# Altium integrated library Altera APEX 20KE.IntLib: 235 symbols (part 15 of 49)
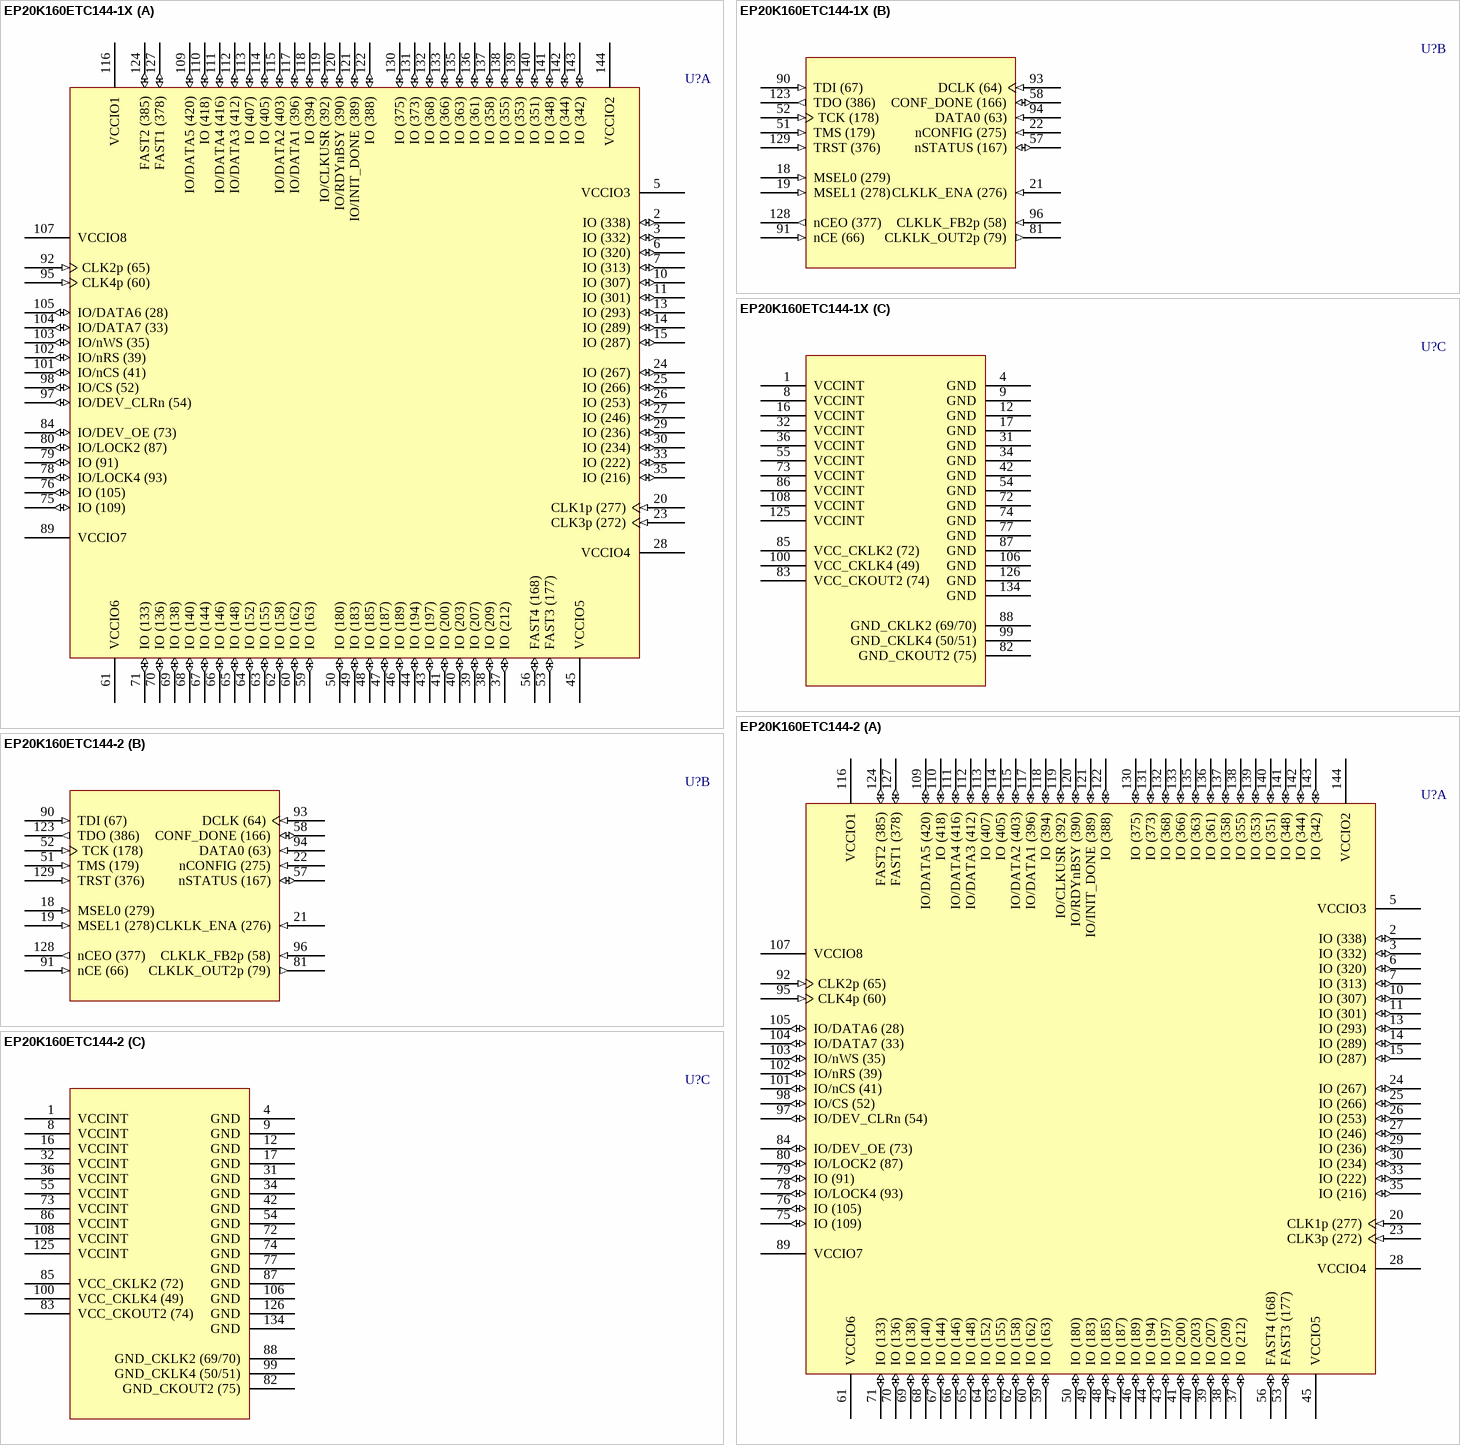
[diagram p413: symbols EP20K160ETC144-1X to EP20K160ETC144-2]

## EP20K160ETC144-1X
designator U?
APEX 20K160E PLD with PLLs and LVDS, 144-Pin TQFP, Commercial Grade, Speed Grade 1; Published: 17-Jul-2002; LatestRevisionDate: 13-Apr-2006; LatestRevisionNote: IPC-7351 Footprint Added.; DatasheetVersion: Mar-2004; PackageVersion: ver14.1, Oct-2005; PackageReference: TQFP144; Publisher: Altium Limited; PackageDescription: 144-Pin Plastic Thin Quad Flat Pack (TQFP144); Code_JEDEC: MS-026-BFB; ComponentLink1Description: Manufacturer Link; ComponentLink1URL: http://www.altera.com/products/devices/apex/apx-index.html; ComponentLink2Description: Datasheet; ComponentLink2URL: http://www.altera.com/literature/ds/apex.pdf
footprint TQFP144_N (Thin QFP, 144-Leads, Body 20x20mm, Pitch 0.5mm, IPC Medium Density)
footprint TQFP144_L (Thin QFP, 144-Leads, Body 20x20mm, Pitch 0.5mm, IPC High Density)
footprint TQFP144_M (Thin QFP, 144-Leads, Body 20x20mm, Pitch 0.5mm, IPC Low Density)
3D model EP20K160E-TQFP144 (144-Pin Plastic Thin Quad Flat Pack (TQFP144))
part A pins: 2 IO (338) (io), 3 IO (332) (io), 5 VCCIO3 (power), 6 IO (320) (io), 7 IO (313) (io), 10 IO (307) (io), 11 IO (301) (io), 13 IO (293) (io), 14 IO (289) (io), 15 IO (287) (io), 20 CLK1p (277) (in), 23 CLK3p (272) (in), 24 IO (267) (io), 25 IO (266) (io), 26 IO (253) (io), 27 IO (246) (io), 28 VCCIO4 (power), 29 IO (236) (io), 30 IO (234) (io), 33 IO (222) (io), 35 IO (216) (io), 37 IO (212) (io), 38 IO (209) (io), 39 IO (207) (io), 40 IO (203) (io), 41 IO (200) (io), 43 IO (197) (io), 44 IO (194) (io), 45 VCCIO5 (power), 46 IO (189) (io), 47 IO (187) (io), 48 IO (185) (io), 49 IO (183) (io), 50 IO (180) (io), 53 FAST3 (177) (io), 56 FAST4 (168) (io), 59 IO (163) (io), 60 IO (162) (io), 61 VCCIO6 (power), 62 IO (158) (io), 63 IO (155) (io), 64 IO (152) (io), 65 IO (148) (io), 66 IO (146) (io), 67 IO (144) (io), 68 IO (140) (io), 69 IO (138) (io), 70 IO (136) (io), 71 IO (133) (io), 75 IO (109) (io), 76 IO (105) (io), 78 IO/LOCK4 (93) (io), 79 IO (91) (io), 80 IO/LOCK2 (87) (io), 84 IO/DEV_OE (73) (io), 89 VCCIO7 (power), 92 CLK2p (65) (in), 95 CLK4p (60) (in), 97 IO/DEV_CLRn (54) (io), 98 IO/CS (52) (io), 101 IO/nCS (41) (io), 102 IO/nRS (39) (io), 103 IO/nWS (35) (io), 104 IO/DATA7 (33) (io), 105 IO/DATA6 (28) (io), 107 VCCIO8 (power), 109 IO/DATA5 (420) (io), 110 IO (418) (io), 111 IO/DATA4 (416) (io), 112 IO/DATA3 (412) (io), 113 IO (407) (io), 114 IO (405) (io), 115 IO/DATA2 (403) (io), 116 VCCIO1 (power), 117 IO/DATA1 (396) (io), 118 IO (394) (io), 119 IO/CLKUSR (392) (io), 120 IO/RDYnBSY (390) (io), 121 IO/INIT_DONE (389) (io), 122 IO (388) (io), 124 FAST2 (385) (io), 127 FAST1 (378) (io), 130 IO (375) (io), 131 IO (373) (io), 132 IO (368) (io), 133 IO (366) (io), 135 IO (363) (io), 136 IO (361) (io), 137 IO (358) (io), 138 IO (355) (io), 139 IO (353) (io), 140 IO (351) (io), 141 IO (348) (io), 142 IO (344) (io), 143 IO (342) (io), 144 VCCIO2 (power)
part B pins: 18 MSEL0 (279) (in), 19 MSEL1 (278) (in), 21 CLKLK_ENA (276) (in), 22 nCONFIG (275) (in), 51 TMS (179) (in), 52 TCK (178) (in), 57 nSTATUS (167) (io), 58 CONF_DONE (166) (io), 81 CLKLK_OUT2p (79) (out), 90 TDI (67) (in), 91 nCE (66) (in), 93 DCLK (64) (in), 94 DATA0 (63) (in), 96 CLKLK_FB2p (58) (in), 123 TDO (386) (out), 128 nCEO (377) (out), 129 TRST (376) (in)
part C pins: 1 VCCINT (power), 4 GND (power), 8 VCCINT (power), 9 GND (power), 12 GND (power), 16 VCCINT (power), 17 GND (power), 31 GND (power), 32 VCCINT (power), 34 GND (power), 36 VCCINT (power), 42 GND (power), 54 GND (power), 55 VCCINT (power), 72 GND (power), 73 VCCINT (power), 74 GND (power), 77 GND (power), 82 GND_CKOUT2 (75) (power), 83 VCC_CKOUT2 (74) (power), 85 VCC_CKLK2 (72) (power), 86 VCCINT (power), 87 GND (power), 88 GND_CKLK2 (69/70) (power), 99 GND_CKLK4 (50/51) (power), 100 VCC_CKLK4 (49) (power), 106 GND (power), 108 VCCINT (power), 125 VCCINT (power), 126 GND (power), 134 GND (power)

## EP20K160ETC144-2
designator U?
APEX 20K160E PLD, 144-Pin TQFP, Commercial Grade, Speed Grade 2; Published: 17-Jul-2002; LatestRevisionDate: 13-Apr-2006; LatestRevisionNote: IPC-7351 Footprint Added.; DatasheetVersion: Mar-2004; PackageVersion: ver14.1, Oct-2005; PackageReference: TQFP144; Publisher: Altium Limited; PackageDescription: 144-Pin Plastic Thin Quad Flat Pack (TQFP144); Code_JEDEC: MS-026-BFB; ComponentLink1Description: Manufacturer Link; ComponentLink1URL: http://www.altera.com/products/devices/apex/apx-index.html; ComponentLink2Description: Datasheet; ComponentLink2URL: http://www.altera.com/literature/ds/apex.pdf
footprint TQFP144_N (Thin QFP, 144-Leads, Body 20x20mm, Pitch 0.5mm, IPC Medium Density)
footprint TQFP144_L (Thin QFP, 144-Leads, Body 20x20mm, Pitch 0.5mm, IPC High Density)
footprint TQFP144_M (Thin QFP, 144-Leads, Body 20x20mm, Pitch 0.5mm, IPC Low Density)
3D model EP20K160E-TQFP144 (144-Pin Plastic Thin Quad Flat Pack (TQFP144))
part A pins: 2 IO (338) (io), 3 IO (332) (io), 5 VCCIO3 (power), 6 IO (320) (io), 7 IO (313) (io), 10 IO (307) (io), 11 IO (301) (io), 13 IO (293) (io), 14 IO (289) (io), 15 IO (287) (io), 20 CLK1p (277) (in), 23 CLK3p (272) (in), 24 IO (267) (io), 25 IO (266) (io), 26 IO (253) (io), 27 IO (246) (io), 28 VCCIO4 (power), 29 IO (236) (io), 30 IO (234) (io), 33 IO (222) (io), 35 IO (216) (io), 37 IO (212) (io), 38 IO (209) (io), 39 IO (207) (io), 40 IO (203) (io), 41 IO (200) (io), 43 IO (197) (io), 44 IO (194) (io), 45 VCCIO5 (power), 46 IO (189) (io), 47 IO (187) (io), 48 IO (185) (io), 49 IO (183) (io), 50 IO (180) (io), 53 FAST3 (177) (io), 56 FAST4 (168) (io), 59 IO (163) (io), 60 IO (162) (io), 61 VCCIO6 (power), 62 IO (158) (io), 63 IO (155) (io), 64 IO (152) (io), 65 IO (148) (io), 66 IO (146) (io), 67 IO (144) (io), 68 IO (140) (io), 69 IO (138) (io), 70 IO (136) (io), 71 IO (133) (io), 75 IO (109) (io), 76 IO (105) (io), 78 IO/LOCK4 (93) (io), 79 IO (91) (io), 80 IO/LOCK2 (87) (io), 84 IO/DEV_OE (73) (io), 89 VCCIO7 (power), 92 CLK2p (65) (in), 95 CLK4p (60) (in), 97 IO/DEV_CLRn (54) (io), 98 IO/CS (52) (io), 101 IO/nCS (41) (io), 102 IO/nRS (39) (io), 103 IO/nWS (35) (io), 104 IO/DATA7 (33) (io), 105 IO/DATA6 (28) (io), 107 VCCIO8 (power), 109 IO/DATA5 (420) (io), 110 IO (418) (io), 111 IO/DATA4 (416) (io), 112 IO/DATA3 (412) (io), 113 IO (407) (io), 114 IO (405) (io), 115 IO/DATA2 (403) (io), 116 VCCIO1 (power), 117 IO/DATA1 (396) (io), 118 IO (394) (io), 119 IO/CLKUSR (392) (io), 120 IO/RDYnBSY (390) (io), 121 IO/INIT_DONE (389) (io), 122 IO (388) (io), 124 FAST2 (385) (io), 127 FAST1 (378) (io), 130 IO (375) (io), 131 IO (373) (io), 132 IO (368) (io), 133 IO (366) (io), 135 IO (363) (io), 136 IO (361) (io), 137 IO (358) (io), 138 IO (355) (io), 139 IO (353) (io), 140 IO (351) (io), 141 IO (348) (io), 142 IO (344) (io), 143 IO (342) (io), 144 VCCIO2 (power)
part B pins: 18 MSEL0 (279) (in), 19 MSEL1 (278) (in), 21 CLKLK_ENA (276) (in), 22 nCONFIG (275) (in), 51 TMS (179) (in), 52 TCK (178) (in), 57 nSTATUS (167) (io), 58 CONF_DONE (166) (io), 81 CLKLK_OUT2p (79) (out), 90 TDI (67) (in), 91 nCE (66) (in), 93 DCLK (64) (in), 94 DATA0 (63) (in), 96 CLKLK_FB2p (58) (in), 123 TDO (386) (out), 128 nCEO (377) (out), 129 TRST (376) (in)
part C pins: 1 VCCINT (power), 4 GND (power), 8 VCCINT (power), 9 GND (power), 12 GND (power), 16 VCCINT (power), 17 GND (power), 31 GND (power), 32 VCCINT (power), 34 GND (power), 36 VCCINT (power), 42 GND (power), 54 GND (power), 55 VCCINT (power), 72 GND (power), 73 VCCINT (power), 74 GND (power), 77 GND (power), 82 GND_CKOUT2 (75) (power), 83 VCC_CKOUT2 (74) (power), 85 VCC_CKLK2 (72) (power), 86 VCCINT (power), 87 GND (power), 88 GND_CKLK2 (69/70) (power), 99 GND_CKLK4 (50/51) (power), 100 VCC_CKLK4 (49) (power), 106 GND (power), 108 VCCINT (power), 125 VCCINT (power), 126 GND (power), 134 GND (power)

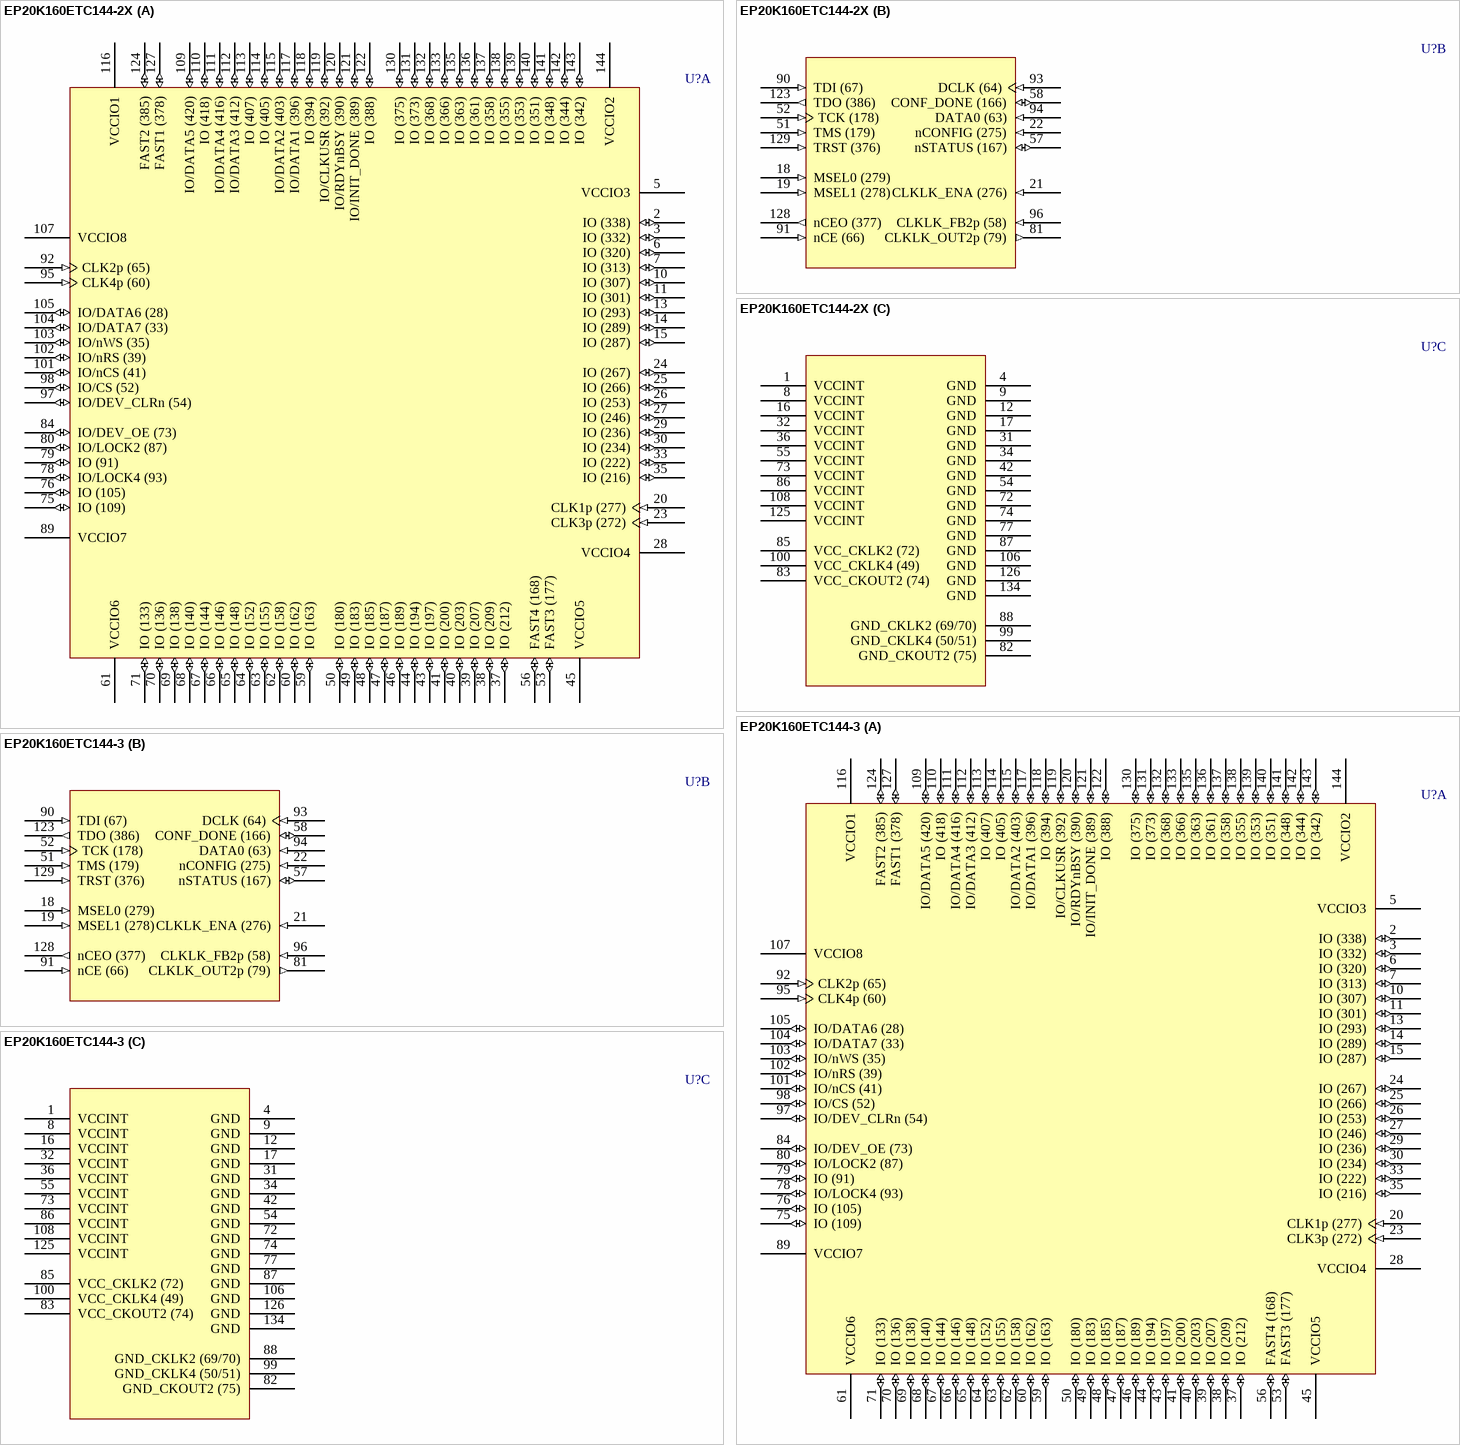
[diagram p161: symbols EP20K160ETC144-2X to EP20K160ETC144-3]

## EP20K160ETC144-2X
designator U?
APEX 20K160E PLD with PLLs and LVDS, 144-Pin TQFP, Commercial Grade, Speed Grade 2; Published: 17-Jul-2002; LatestRevisionDate: 13-Apr-2006; LatestRevisionNote: IPC-7351 Footprint Added.; DatasheetVersion: Mar-2004; PackageVersion: ver14.1, Oct-2005; PackageReference: TQFP144; Publisher: Altium Limited; PackageDescription: 144-Pin Plastic Thin Quad Flat Pack (TQFP144); Code_JEDEC: MS-026-BFB; ComponentLink1Description: Manufacturer Link; ComponentLink1URL: http://www.altera.com/products/devices/apex/apx-index.html; ComponentLink2Description: Datasheet; ComponentLink2URL: http://www.altera.com/literature/ds/apex.pdf
footprint TQFP144_N (Thin QFP, 144-Leads, Body 20x20mm, Pitch 0.5mm, IPC Medium Density)
footprint TQFP144_L (Thin QFP, 144-Leads, Body 20x20mm, Pitch 0.5mm, IPC High Density)
footprint TQFP144_M (Thin QFP, 144-Leads, Body 20x20mm, Pitch 0.5mm, IPC Low Density)
3D model EP20K160E-TQFP144 (144-Pin Plastic Thin Quad Flat Pack (TQFP144))
part A pins: 2 IO (338) (io), 3 IO (332) (io), 5 VCCIO3 (power), 6 IO (320) (io), 7 IO (313) (io), 10 IO (307) (io), 11 IO (301) (io), 13 IO (293) (io), 14 IO (289) (io), 15 IO (287) (io), 20 CLK1p (277) (in), 23 CLK3p (272) (in), 24 IO (267) (io), 25 IO (266) (io), 26 IO (253) (io), 27 IO (246) (io), 28 VCCIO4 (power), 29 IO (236) (io), 30 IO (234) (io), 33 IO (222) (io), 35 IO (216) (io), 37 IO (212) (io), 38 IO (209) (io), 39 IO (207) (io), 40 IO (203) (io), 41 IO (200) (io), 43 IO (197) (io), 44 IO (194) (io), 45 VCCIO5 (power), 46 IO (189) (io), 47 IO (187) (io), 48 IO (185) (io), 49 IO (183) (io), 50 IO (180) (io), 53 FAST3 (177) (io), 56 FAST4 (168) (io), 59 IO (163) (io), 60 IO (162) (io), 61 VCCIO6 (power), 62 IO (158) (io), 63 IO (155) (io), 64 IO (152) (io), 65 IO (148) (io), 66 IO (146) (io), 67 IO (144) (io), 68 IO (140) (io), 69 IO (138) (io), 70 IO (136) (io), 71 IO (133) (io), 75 IO (109) (io), 76 IO (105) (io), 78 IO/LOCK4 (93) (io), 79 IO (91) (io), 80 IO/LOCK2 (87) (io), 84 IO/DEV_OE (73) (io), 89 VCCIO7 (power), 92 CLK2p (65) (in), 95 CLK4p (60) (in), 97 IO/DEV_CLRn (54) (io), 98 IO/CS (52) (io), 101 IO/nCS (41) (io), 102 IO/nRS (39) (io), 103 IO/nWS (35) (io), 104 IO/DATA7 (33) (io), 105 IO/DATA6 (28) (io), 107 VCCIO8 (power), 109 IO/DATA5 (420) (io), 110 IO (418) (io), 111 IO/DATA4 (416) (io), 112 IO/DATA3 (412) (io), 113 IO (407) (io), 114 IO (405) (io), 115 IO/DATA2 (403) (io), 116 VCCIO1 (power), 117 IO/DATA1 (396) (io), 118 IO (394) (io), 119 IO/CLKUSR (392) (io), 120 IO/RDYnBSY (390) (io), 121 IO/INIT_DONE (389) (io), 122 IO (388) (io), 124 FAST2 (385) (io), 127 FAST1 (378) (io), 130 IO (375) (io), 131 IO (373) (io), 132 IO (368) (io), 133 IO (366) (io), 135 IO (363) (io), 136 IO (361) (io), 137 IO (358) (io), 138 IO (355) (io), 139 IO (353) (io), 140 IO (351) (io), 141 IO (348) (io), 142 IO (344) (io), 143 IO (342) (io), 144 VCCIO2 (power)
part B pins: 18 MSEL0 (279) (in), 19 MSEL1 (278) (in), 21 CLKLK_ENA (276) (in), 22 nCONFIG (275) (in), 51 TMS (179) (in), 52 TCK (178) (in), 57 nSTATUS (167) (io), 58 CONF_DONE (166) (io), 81 CLKLK_OUT2p (79) (out), 90 TDI (67) (in), 91 nCE (66) (in), 93 DCLK (64) (in), 94 DATA0 (63) (in), 96 CLKLK_FB2p (58) (in), 123 TDO (386) (out), 128 nCEO (377) (out), 129 TRST (376) (in)
part C pins: 1 VCCINT (power), 4 GND (power), 8 VCCINT (power), 9 GND (power), 12 GND (power), 16 VCCINT (power), 17 GND (power), 31 GND (power), 32 VCCINT (power), 34 GND (power), 36 VCCINT (power), 42 GND (power), 54 GND (power), 55 VCCINT (power), 72 GND (power), 73 VCCINT (power), 74 GND (power), 77 GND (power), 82 GND_CKOUT2 (75) (power), 83 VCC_CKOUT2 (74) (power), 85 VCC_CKLK2 (72) (power), 86 VCCINT (power), 87 GND (power), 88 GND_CKLK2 (69/70) (power), 99 GND_CKLK4 (50/51) (power), 100 VCC_CKLK4 (49) (power), 106 GND (power), 108 VCCINT (power), 125 VCCINT (power), 126 GND (power), 134 GND (power)

## EP20K160ETC144-3
designator U?
APEX 20K160E PLD, 144-Pin TQFP, Commercial Grade, Speed Grade 3; Published: 17-Jul-2002; LatestRevisionDate: 13-Apr-2006; LatestRevisionNote: IPC-7351 Footprint Added.; DatasheetVersion: Mar-2004; PackageVersion: ver14.1, Oct-2005; PackageReference: TQFP144; Publisher: Altium Limited; PackageDescription: 144-Pin Plastic Thin Quad Flat Pack (TQFP144); Code_JEDEC: MS-026-BFB; ComponentLink1Description: Manufacturer Link; ComponentLink1URL: http://www.altera.com/products/devices/apex/apx-index.html; ComponentLink2Description: Datasheet; ComponentLink2URL: http://www.altera.com/literature/ds/apex.pdf
footprint TQFP144_N (Thin QFP, 144-Leads, Body 20x20mm, Pitch 0.5mm, IPC Medium Density)
footprint TQFP144_L (Thin QFP, 144-Leads, Body 20x20mm, Pitch 0.5mm, IPC High Density)
footprint TQFP144_M (Thin QFP, 144-Leads, Body 20x20mm, Pitch 0.5mm, IPC Low Density)
3D model EP20K160E-TQFP144 (144-Pin Plastic Thin Quad Flat Pack (TQFP144))
part A pins: 2 IO (338) (io), 3 IO (332) (io), 5 VCCIO3 (power), 6 IO (320) (io), 7 IO (313) (io), 10 IO (307) (io), 11 IO (301) (io), 13 IO (293) (io), 14 IO (289) (io), 15 IO (287) (io), 20 CLK1p (277) (in), 23 CLK3p (272) (in), 24 IO (267) (io), 25 IO (266) (io), 26 IO (253) (io), 27 IO (246) (io), 28 VCCIO4 (power), 29 IO (236) (io), 30 IO (234) (io), 33 IO (222) (io), 35 IO (216) (io), 37 IO (212) (io), 38 IO (209) (io), 39 IO (207) (io), 40 IO (203) (io), 41 IO (200) (io), 43 IO (197) (io), 44 IO (194) (io), 45 VCCIO5 (power), 46 IO (189) (io), 47 IO (187) (io), 48 IO (185) (io), 49 IO (183) (io), 50 IO (180) (io), 53 FAST3 (177) (io), 56 FAST4 (168) (io), 59 IO (163) (io), 60 IO (162) (io), 61 VCCIO6 (power), 62 IO (158) (io), 63 IO (155) (io), 64 IO (152) (io), 65 IO (148) (io), 66 IO (146) (io), 67 IO (144) (io), 68 IO (140) (io), 69 IO (138) (io), 70 IO (136) (io), 71 IO (133) (io), 75 IO (109) (io), 76 IO (105) (io), 78 IO/LOCK4 (93) (io), 79 IO (91) (io), 80 IO/LOCK2 (87) (io), 84 IO/DEV_OE (73) (io), 89 VCCIO7 (power), 92 CLK2p (65) (in), 95 CLK4p (60) (in), 97 IO/DEV_CLRn (54) (io), 98 IO/CS (52) (io), 101 IO/nCS (41) (io), 102 IO/nRS (39) (io), 103 IO/nWS (35) (io), 104 IO/DATA7 (33) (io), 105 IO/DATA6 (28) (io), 107 VCCIO8 (power), 109 IO/DATA5 (420) (io), 110 IO (418) (io), 111 IO/DATA4 (416) (io), 112 IO/DATA3 (412) (io), 113 IO (407) (io), 114 IO (405) (io), 115 IO/DATA2 (403) (io), 116 VCCIO1 (power), 117 IO/DATA1 (396) (io), 118 IO (394) (io), 119 IO/CLKUSR (392) (io), 120 IO/RDYnBSY (390) (io), 121 IO/INIT_DONE (389) (io), 122 IO (388) (io), 124 FAST2 (385) (io), 127 FAST1 (378) (io), 130 IO (375) (io), 131 IO (373) (io), 132 IO (368) (io), 133 IO (366) (io), 135 IO (363) (io), 136 IO (361) (io), 137 IO (358) (io), 138 IO (355) (io), 139 IO (353) (io), 140 IO (351) (io), 141 IO (348) (io), 142 IO (344) (io), 143 IO (342) (io), 144 VCCIO2 (power)
part B pins: 18 MSEL0 (279) (in), 19 MSEL1 (278) (in), 21 CLKLK_ENA (276) (in), 22 nCONFIG (275) (in), 51 TMS (179) (in), 52 TCK (178) (in), 57 nSTATUS (167) (io), 58 CONF_DONE (166) (io), 81 CLKLK_OUT2p (79) (out), 90 TDI (67) (in), 91 nCE (66) (in), 93 DCLK (64) (in), 94 DATA0 (63) (in), 96 CLKLK_FB2p (58) (in), 123 TDO (386) (out), 128 nCEO (377) (out), 129 TRST (376) (in)
part C pins: 1 VCCINT (power), 4 GND (power), 8 VCCINT (power), 9 GND (power), 12 GND (power), 16 VCCINT (power), 17 GND (power), 31 GND (power), 32 VCCINT (power), 34 GND (power), 36 VCCINT (power), 42 GND (power), 54 GND (power), 55 VCCINT (power), 72 GND (power), 73 VCCINT (power), 74 GND (power), 77 GND (power), 82 GND_CKOUT2 (75) (power), 83 VCC_CKOUT2 (74) (power), 85 VCC_CKLK2 (72) (power), 86 VCCINT (power), 87 GND (power), 88 GND_CKLK2 (69/70) (power), 99 GND_CKLK4 (50/51) (power), 100 VCC_CKLK4 (49) (power), 106 GND (power), 108 VCCINT (power), 125 VCCINT (power), 126 GND (power), 134 GND (power)

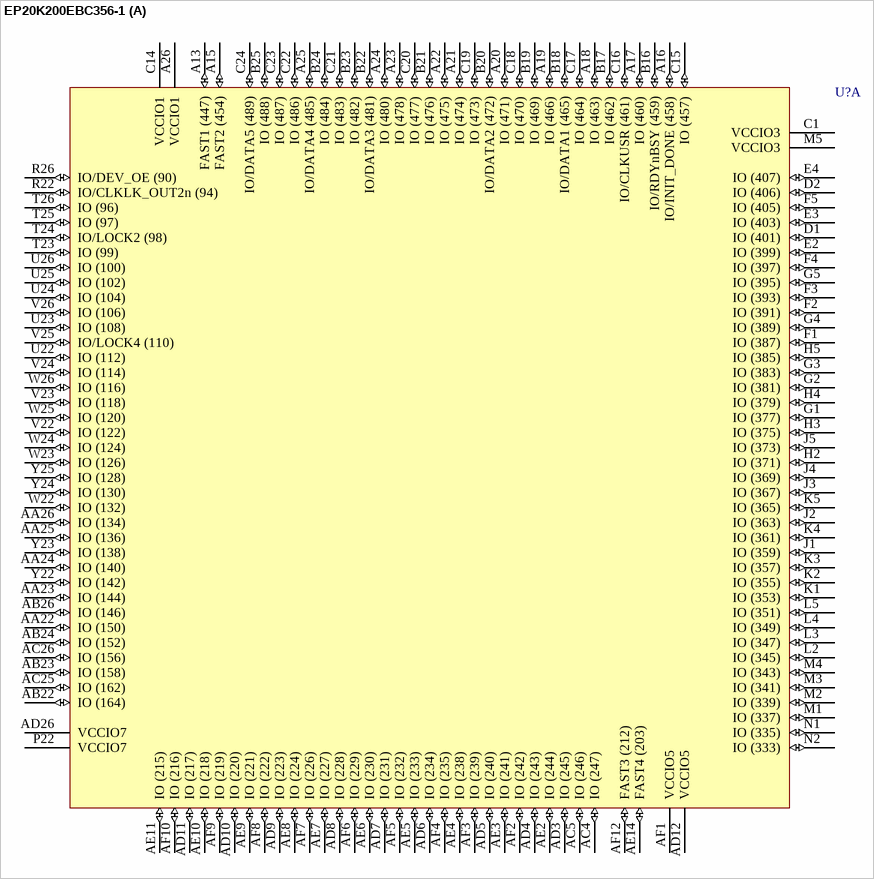
[diagram p162: symbol EP20K200EBC356-1]

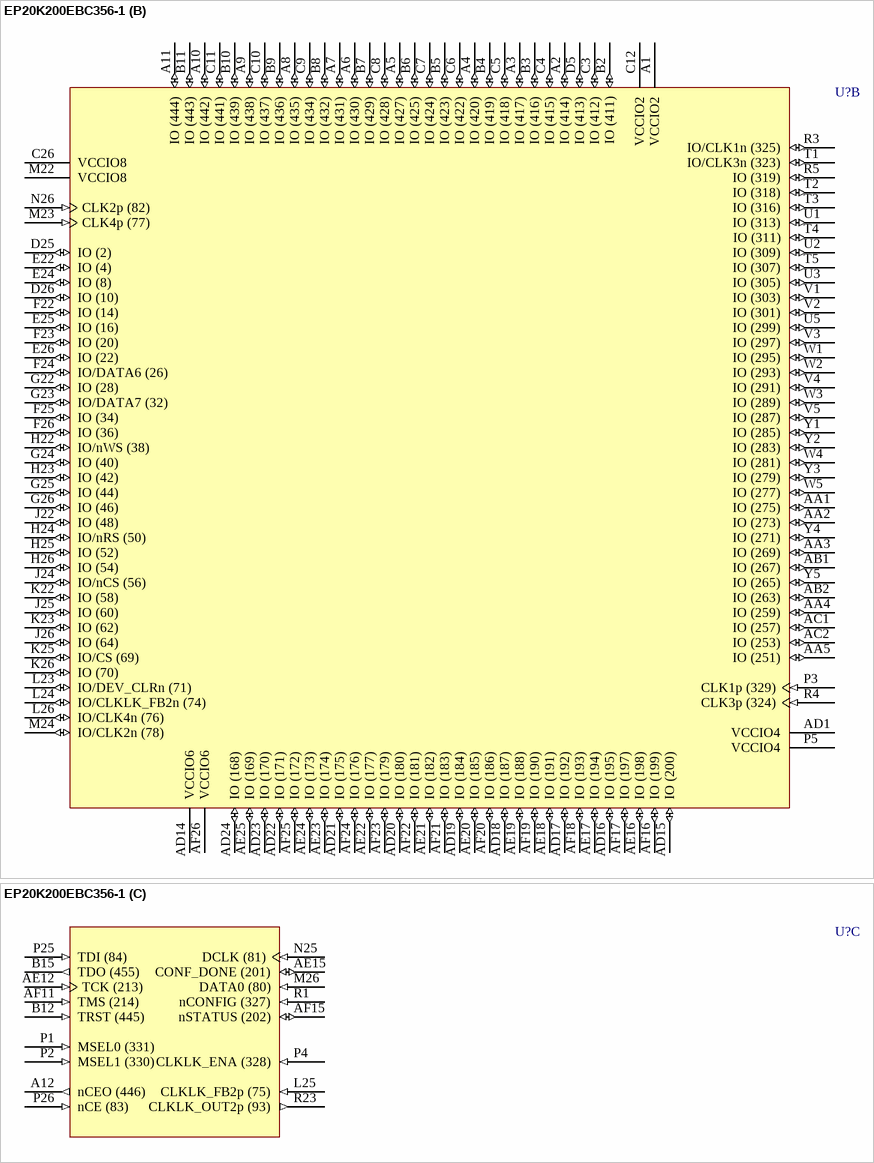
[diagram p163: symbol EP20K200EBC356-1]

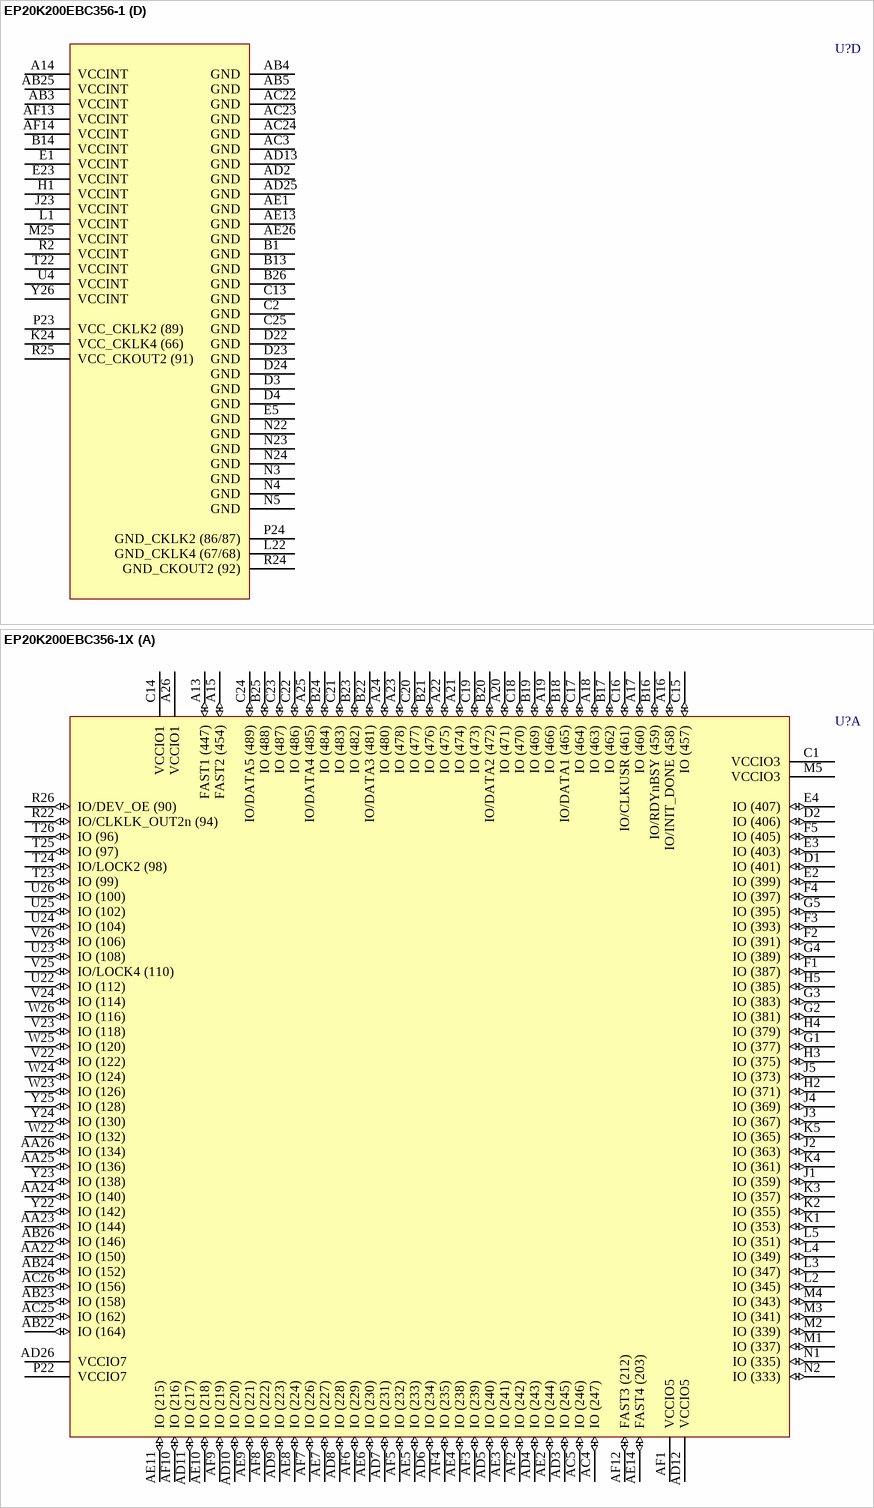
[diagram p164: symbols EP20K200EBC356-1 to EP20K200EBC356-1X]

## EP20K200EBC356-1
designator U?
APEX 20K200E PLD, 356-Pin BGA, Commercial Grade, Speed Grade 1; Published: 17-Jul-2002; LatestRevisionDate: 13-Apr-2006; LatestRevisionNote: IPC-7351 Footprint Added.; DatasheetVersion: Mar-2004; PackageVersion: ver14.1, Oct-2005; PackageReference: BGA356; Publisher: Altium Limited; PackageDescription: 356-Ball Ball Grid Array (BGA356); Code_JEDEC: MO-192-BAR-2; ComponentLink1Description: Manufacturer Link; ComponentLink1URL: http://www.altera.com/products/devices/apex/apx-index.html; ComponentLink2Description: Datasheet; ComponentLink2URL: http://www.altera.com/literature/ds/apex.pdf
footprint BGA356 (BGA, 356-Leads, Body 35x35mm, Pitch 1.27mm)
3D model EP20K200E-BGA356 (356-Ball Ball Grid Array (BGA356))
part A pins: A13 FAST1 (447) (io), A15 FAST2 (454) (io), A16 IO/INIT_DONE (458) (io), A17 IO (460) (io), A18 IO (463) (io), A19 IO (466) (io), A20 IO (471) (io), A21 IO (474) (io), A22 IO (475) (io), A23 IO (478) (io), A24 IO (480) (io), A25 IO/DATA4 (485) (io), A26 VCCIO1 (power), AA22 IO (150) (io), AA23 IO (144) (io), AA24 IO (140) (io), AA25 IO (136) (io), AA26 IO (134) (io), AB22 IO (164) (io), AB23 IO (158) (io), AB24 IO (152) (io), AB26 IO (146) (io), AC4 IO (247) (io), AC5 IO (246) (io), AC25 IO (162) (io), AC26 IO (156) (io), AD3 IO (245) (io), AD4 IO (243) (io), AD5 IO (240) (io), AD6 IO (234) (io), AD7 IO (231) (io), AD8 IO (228) (io), AD9 IO (223) (io), AD10 IO (220) (io), AD11 IO (217) (io), AD12 VCCIO5 (power), AD26 VCCIO7 (power), AE2 IO (244) (io), AE3 IO (241) (io), AE4 IO (238) (io), AE5 IO (233) (io), AE6 IO (230) (io), AE7 IO (227) (io), AE8 IO (224) (io), AE9 IO (221) (io), AE10 IO (218) (io), AE11 IO (215) (io), AE14 FAST4 (203) (io), AF1 VCCIO5 (power), AF2 IO (242) (io), AF3 IO (239) (io), AF4 IO (235) (io), AF5 IO (232) (io), AF6 IO (229) (io), AF7 IO (226) (io), AF8 IO (222) (io), AF9 IO (219) (io), AF10 IO (216) (io), AF12 FAST3 (212) (io), B16 IO/RDYnBSY (459) (io), B17 IO (462) (io), B18 IO/DATA1 (465) (io), B19 IO (469) (io), B20 IO/DATA2 (472) (io), B21 IO (476) (io), B22 IO/DATA3 (481) (io), B23 IO (482) (io), B24 IO (484) (io), B25 IO (488) (io), C1 VCCIO3 (power), C14 VCCIO1 (power), C15 IO (457) (io), C16 IO/CLKUSR (461) (io), C17 IO (464) (io), C18 IO (470) (io), C19 IO (473) (io), C20 IO (477) (io), C21 IO (483) (io), C22 IO (486) (io), C23 IO (487) (io), C24 IO/DATA5 (489) (io), D1 IO (401) (io), D2 IO (406) (io), E2 IO (399) (io), E3 IO (403) (io), E4 IO (407) (io), F1 IO (387) (io), F2 IO (391) (io), F3 IO (393) (io), F4 IO (397) (io), F5 IO (405) (io), G1 IO (377) (io), G2 IO (381) (io), G3 IO (383) (io), G4 IO (389) (io), G5 IO (395) (io), H2 IO (371) (io), H3 IO (375) (io), H4 IO (379) (io), H5 IO (385) (io), J1 IO (359) (io), J2 IO (363) (io), J3 IO (367) (io), J4 IO (369) (io), J5 IO (373) (io), K1 IO (353) (io), K2 IO (355) (io), K3 IO (357) (io), K4 IO (361) (io), K5 IO (365) (io), L2 IO (345) (io), L3 IO (347) (io), L4 IO (349) (io), L5 IO (351) (io), M1 IO (337) (io), M2 IO (339) (io), M3 IO (341) (io), M4 IO (343) (io), M5 VCCIO3 (power), N1 IO (335) (io), N2 IO (333) (io), P22 VCCIO7 (power), R22 IO/CLKLK_OUT2n (94) (io), R26 IO/DEV_OE (90) (io), T23 IO (99) (io), T24 IO/LOCK2 (98) (io), T25 IO (97) (io), T26 IO (96) (io), U22 IO (112) (io), U23 IO (108) (io), U24 IO (104) (io), U25 IO (102) (io), U26 IO (100) (io), V22 IO (122) (io), V23 IO (118) (io), V24 IO (114) (io), V25 IO/LOCK4 (110) (io), V26 IO (106) (io), W22 IO (132) (io), W23 IO (126) (io), W24 IO (124) (io), W25 IO (120) (io), W26 IO (116) (io), Y22 IO (142) (io), Y23 IO (138) (io), Y24 IO (130) (io), Y25 IO (128) (io)
part B pins: A1 VCCIO2 (power), A2 IO (414) (io), A3 IO (417) (io), A4 IO (420) (io), A5 IO (427) (io), A6 IO (430) (io), A7 IO (431) (io), A8 IO (435) (io), A9 IO (438) (io), A10 IO (442) (io), A11 IO (444) (io), AA1 IO (275) (io), AA2 IO (273) (io), AA3 IO (269) (io), AA4 IO (259) (io), AA5 IO (251) (io), AB1 IO (267) (io), AB2 IO (263) (io), AC1 IO (257) (io), AC2 IO (253) (io), AD1 VCCIO4 (power), AD14 VCCIO6 (power), AD15 IO (200) (io), AD16 IO (195) (io), AD17 IO (192) (io), AD18 IO (187) (io), AD19 IO (184) (io), AD20 IO (180) (io), AD21 IO (175) (io), AD22 IO (171) (io), AD23 IO (170) (io), AD24 IO (168) (io), AE16 IO (198) (io), AE17 IO (194) (io), AE18 IO (191) (io), AE19 IO (188) (io), AE20 IO (185) (io), AE21 IO (182) (io), AE22 IO (177) (io), AE23 IO (174) (io), AE24 IO (173) (io), AE25 IO (169) (io), AF16 IO (199) (io), AF17 IO (197) (io), AF18 IO (193) (io), AF19 IO (190) (io), AF20 IO (186) (io), AF21 IO (183) (io), AF22 IO (181) (io), AF23 IO (179) (io), AF24 IO (176) (io), AF25 IO (172) (io), AF26 VCCIO6 (power), B2 IO (411) (io), B3 IO (416) (io), B4 IO (419) (io), B5 IO (423) (io), B6 IO (425) (io), B7 IO (429) (io), B8 IO (432) (io), B9 IO (436) (io), B10 IO (439) (io), B11 IO (443) (io), C3 IO (412) (io), C4 IO (415) (io), C5 IO (418) (io), C6 IO (422) (io), C7 IO (424) (io), C8 IO (428) (io), C9 IO (434) (io), C10 IO (437) (io), C11 IO (441) (io), C12 VCCIO2 (power), C26 VCCIO8 (power), D5 IO (413) (io), D25 IO (2) (io), D26 IO (10) (io), E22 IO (4) (io), E24 IO (8) (io), E25 IO (16) (io), E26 IO (22) (io), F22 IO (14) (io), F23 IO (20) (io), F24 IO/DATA6 (26) (io), F25 IO (34) (io), F26 IO (36) (io), G22 IO (28) (io), G23 IO/DATA7 (32) (io), G24 IO (40) (io), G25 IO (44) (io), G26 IO (46) (io), H22 IO/nWS (38) (io), H23 IO (42) (io), H24 IO/nRS (50) (io), H25 IO (52) (io), H26 IO (54) (io), J22 IO (48) (io), J24 IO/nCS (56) (io), J25 IO (60) (io), J26 IO (64) (io), K22 IO (58) (io), K23 IO (62) (io), K25 IO/CS (69) (io), K26 IO (70) (io), L23 IO/DEV_CLRn (71) (io), L24 IO/CLKLK_FB2n (74) (io), L26 IO/CLK4n (76) (io), M22 VCCIO8 (power), M23 CLK4p (77) (in), M24 IO/CLK2n (78) (io), N26 CLK2p (82) (in), P3 CLK1p (329) (in), P5 VCCIO4 (power), R3 IO/CLK1n (325) (io), R4 CLK3p (324) (in), R5 IO (319) (io), T1 IO/CLK3n (323) (io), T2 IO (318) (io), T3 IO (316) (io), T4 IO (311) (io), T5 IO (307) (io), U1 IO (313) (io), U2 IO (309) (io), U3 IO (305) (io), U5 IO (299) (io), V1 IO (303) (io), V2 IO (301) (io), V3 IO (297) (io), V4 IO (291) (io), V5 IO (287) (io), W1 IO (295) (io), W2 IO (293) (io), W3 IO (289) (io), W4 IO (281) (io), W5 IO (277) (io), Y1 IO (285) (io), Y2 IO (283) (io), Y3 IO (279) (io), Y4 IO (271) (io), Y5 IO (265) (io)
part C pins: A12 nCEO (446) (out), AE12 TCK (213) (in), AE15 CONF_DONE (201) (io), AF11 TMS (214) (in), AF15 nSTATUS (202) (io), B12 TRST (445) (in), B15 TDO (455) (out), L25 CLKLK_FB2p (75) (in), M26 DATA0 (80) (in), N25 DCLK (81) (in), P1 MSEL0 (331) (in), P2 MSEL1 (330) (in), P4 CLKLK_ENA (328) (in), P25 TDI (84) (in), P26 nCE (83) (in), R1 nCONFIG (327) (in), R23 CLKLK_OUT2p (93) (out)
part D pins: A14 VCCINT (power), AB3 VCCINT (power), AB4 GND (power), AB5 GND (power), AB25 VCCINT (power), AC3 GND (power), AC22 GND (power), AC23 GND (power), AC24 GND (power), AD2 GND (power), AD13 GND (power), AD25 GND (power), AE1 GND (power), AE13 GND (power), AE26 GND (power), AF13 VCCINT (power), AF14 VCCINT (power), B1 GND (power), B13 GND (power), B14 VCCINT (power), B26 GND (power), C2 GND (power), C13 GND (power), C25 GND (power), D3 GND (power), D4 GND (power), D22 GND (power), D23 GND (power), D24 GND (power), E1 VCCINT (power), E5 GND (power), E23 VCCINT (power), H1 VCCINT (power), J23 VCCINT (power), K24 VCC_CKLK4 (66) (power), L1 VCCINT (power), L22 GND_CKLK4 (67/68) (power), M25 VCCINT (power), N3 GND (power), N4 GND (power), N5 GND (power), N22 GND (power), N23 GND (power), N24 GND (power), P23 VCC_CKLK2 (89) (power), P24 GND_CKLK2 (86/87) (power), R2 VCCINT (power), R24 GND_CKOUT2 (92) (power), R25 VCC_CKOUT2 (91) (power), T22 VCCINT (power), U4 VCCINT (power), Y26 VCCINT (power)

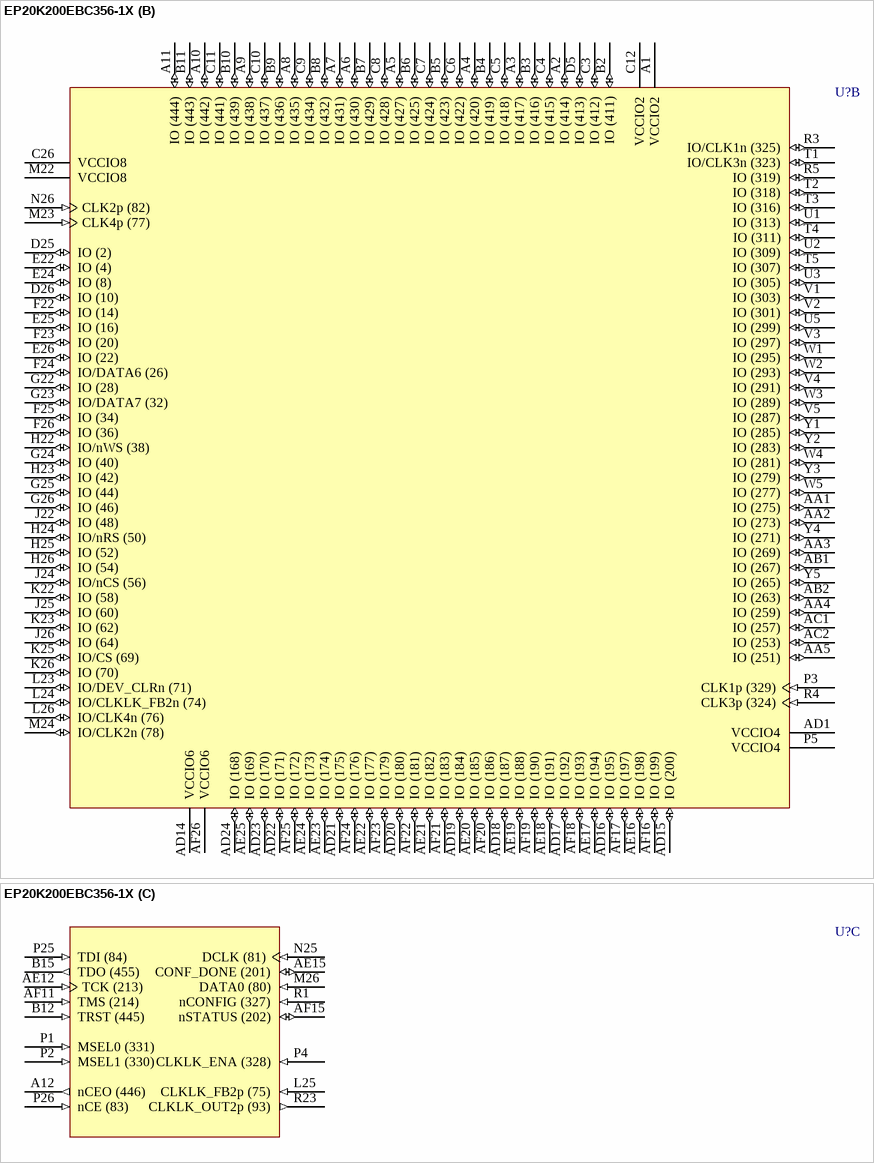
[diagram p165: symbol EP20K200EBC356-1X]

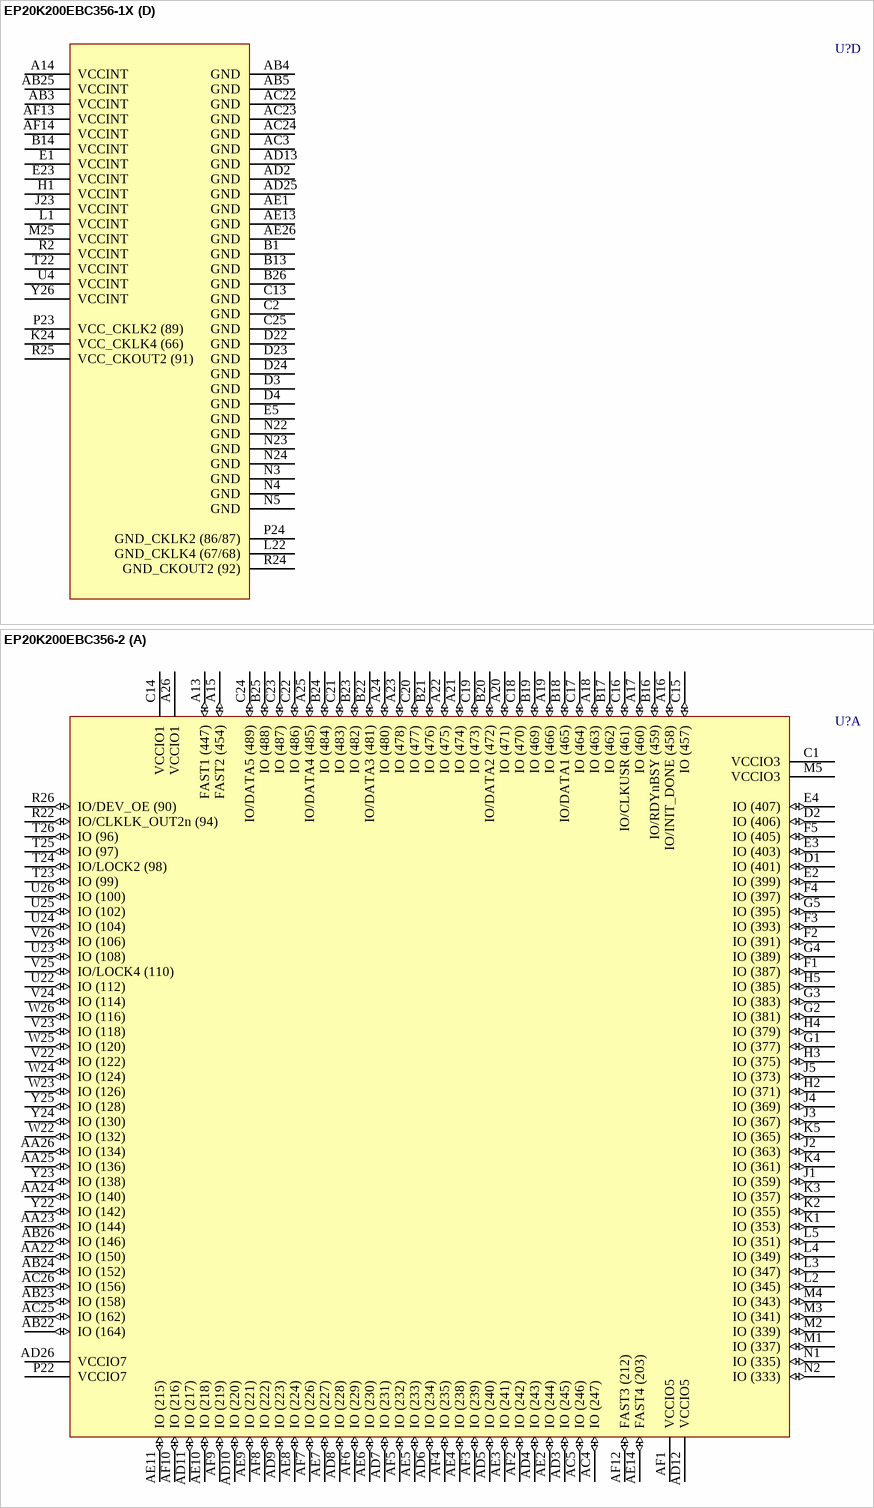
[diagram p166: symbols EP20K200EBC356-1X to EP20K200EBC356-2]

## EP20K200EBC356-1X
designator U?
APEX 20K200E PLD with PLLs and LVDS, 356-Pin BGA, Commercial Grade, Speed Grade 1; Published: 17-Jul-2002; LatestRevisionDate: 13-Apr-2006; LatestRevisionNote: IPC-7351 Footprint Added.; DatasheetVersion: Mar-2004; PackageVersion: ver14.1, Oct-2005; PackageReference: BGA356; Publisher: Altium Limited; PackageDescription: 356-Ball Ball Grid Array (BGA356); Code_JEDEC: MO-192-BAR-2; ComponentLink1Description: Manufacturer Link; ComponentLink1URL: http://www.altera.com/products/devices/apex/apx-index.html; ComponentLink2Description: Datasheet; ComponentLink2URL: http://www.altera.com/literature/ds/apex.pdf
footprint BGA356 (BGA, 356-Leads, Body 35x35mm, Pitch 1.27mm)
3D model EP20K200E-BGA356 (356-Ball Ball Grid Array (BGA356))
part A pins: A13 FAST1 (447) (io), A15 FAST2 (454) (io), A16 IO/INIT_DONE (458) (io), A17 IO (460) (io), A18 IO (463) (io), A19 IO (466) (io), A20 IO (471) (io), A21 IO (474) (io), A22 IO (475) (io), A23 IO (478) (io), A24 IO (480) (io), A25 IO/DATA4 (485) (io), A26 VCCIO1 (power), AA22 IO (150) (io), AA23 IO (144) (io), AA24 IO (140) (io), AA25 IO (136) (io), AA26 IO (134) (io), AB22 IO (164) (io), AB23 IO (158) (io), AB24 IO (152) (io), AB26 IO (146) (io), AC4 IO (247) (io), AC5 IO (246) (io), AC25 IO (162) (io), AC26 IO (156) (io), AD3 IO (245) (io), AD4 IO (243) (io), AD5 IO (240) (io), AD6 IO (234) (io), AD7 IO (231) (io), AD8 IO (228) (io), AD9 IO (223) (io), AD10 IO (220) (io), AD11 IO (217) (io), AD12 VCCIO5 (power), AD26 VCCIO7 (power), AE2 IO (244) (io), AE3 IO (241) (io), AE4 IO (238) (io), AE5 IO (233) (io), AE6 IO (230) (io), AE7 IO (227) (io), AE8 IO (224) (io), AE9 IO (221) (io), AE10 IO (218) (io), AE11 IO (215) (io), AE14 FAST4 (203) (io), AF1 VCCIO5 (power), AF2 IO (242) (io), AF3 IO (239) (io), AF4 IO (235) (io), AF5 IO (232) (io), AF6 IO (229) (io), AF7 IO (226) (io), AF8 IO (222) (io), AF9 IO (219) (io), AF10 IO (216) (io), AF12 FAST3 (212) (io), B16 IO/RDYnBSY (459) (io), B17 IO (462) (io), B18 IO/DATA1 (465) (io), B19 IO (469) (io), B20 IO/DATA2 (472) (io), B21 IO (476) (io), B22 IO/DATA3 (481) (io), B23 IO (482) (io), B24 IO (484) (io), B25 IO (488) (io), C1 VCCIO3 (power), C14 VCCIO1 (power), C15 IO (457) (io), C16 IO/CLKUSR (461) (io), C17 IO (464) (io), C18 IO (470) (io), C19 IO (473) (io), C20 IO (477) (io), C21 IO (483) (io), C22 IO (486) (io), C23 IO (487) (io), C24 IO/DATA5 (489) (io), D1 IO (401) (io), D2 IO (406) (io), E2 IO (399) (io), E3 IO (403) (io), E4 IO (407) (io), F1 IO (387) (io), F2 IO (391) (io), F3 IO (393) (io), F4 IO (397) (io), F5 IO (405) (io), G1 IO (377) (io), G2 IO (381) (io), G3 IO (383) (io), G4 IO (389) (io), G5 IO (395) (io), H2 IO (371) (io), H3 IO (375) (io), H4 IO (379) (io), H5 IO (385) (io), J1 IO (359) (io), J2 IO (363) (io), J3 IO (367) (io), J4 IO (369) (io), J5 IO (373) (io), K1 IO (353) (io), K2 IO (355) (io), K3 IO (357) (io), K4 IO (361) (io), K5 IO (365) (io), L2 IO (345) (io), L3 IO (347) (io), L4 IO (349) (io), L5 IO (351) (io), M1 IO (337) (io), M2 IO (339) (io), M3 IO (341) (io), M4 IO (343) (io), M5 VCCIO3 (power), N1 IO (335) (io), N2 IO (333) (io), P22 VCCIO7 (power), R22 IO/CLKLK_OUT2n (94) (io), R26 IO/DEV_OE (90) (io), T23 IO (99) (io), T24 IO/LOCK2 (98) (io), T25 IO (97) (io), T26 IO (96) (io), U22 IO (112) (io), U23 IO (108) (io), U24 IO (104) (io), U25 IO (102) (io), U26 IO (100) (io), V22 IO (122) (io), V23 IO (118) (io), V24 IO (114) (io), V25 IO/LOCK4 (110) (io), V26 IO (106) (io), W22 IO (132) (io), W23 IO (126) (io), W24 IO (124) (io), W25 IO (120) (io), W26 IO (116) (io), Y22 IO (142) (io), Y23 IO (138) (io), Y24 IO (130) (io), Y25 IO (128) (io)
part B pins: A1 VCCIO2 (power), A2 IO (414) (io), A3 IO (417) (io), A4 IO (420) (io), A5 IO (427) (io), A6 IO (430) (io), A7 IO (431) (io), A8 IO (435) (io), A9 IO (438) (io), A10 IO (442) (io), A11 IO (444) (io), AA1 IO (275) (io), AA2 IO (273) (io), AA3 IO (269) (io), AA4 IO (259) (io), AA5 IO (251) (io), AB1 IO (267) (io), AB2 IO (263) (io), AC1 IO (257) (io), AC2 IO (253) (io), AD1 VCCIO4 (power), AD14 VCCIO6 (power), AD15 IO (200) (io), AD16 IO (195) (io), AD17 IO (192) (io), AD18 IO (187) (io), AD19 IO (184) (io), AD20 IO (180) (io), AD21 IO (175) (io), AD22 IO (171) (io), AD23 IO (170) (io), AD24 IO (168) (io), AE16 IO (198) (io), AE17 IO (194) (io), AE18 IO (191) (io), AE19 IO (188) (io), AE20 IO (185) (io), AE21 IO (182) (io), AE22 IO (177) (io), AE23 IO (174) (io), AE24 IO (173) (io), AE25 IO (169) (io), AF16 IO (199) (io), AF17 IO (197) (io), AF18 IO (193) (io), AF19 IO (190) (io), AF20 IO (186) (io), AF21 IO (183) (io), AF22 IO (181) (io), AF23 IO (179) (io), AF24 IO (176) (io), AF25 IO (172) (io), AF26 VCCIO6 (power), B2 IO (411) (io), B3 IO (416) (io), B4 IO (419) (io), B5 IO (423) (io), B6 IO (425) (io), B7 IO (429) (io), B8 IO (432) (io), B9 IO (436) (io), B10 IO (439) (io), B11 IO (443) (io), C3 IO (412) (io), C4 IO (415) (io), C5 IO (418) (io), C6 IO (422) (io), C7 IO (424) (io), C8 IO (428) (io), C9 IO (434) (io), C10 IO (437) (io), C11 IO (441) (io), C12 VCCIO2 (power), C26 VCCIO8 (power), D5 IO (413) (io), D25 IO (2) (io), D26 IO (10) (io), E22 IO (4) (io), E24 IO (8) (io), E25 IO (16) (io), E26 IO (22) (io), F22 IO (14) (io), F23 IO (20) (io), F24 IO/DATA6 (26) (io), F25 IO (34) (io), F26 IO (36) (io), G22 IO (28) (io), G23 IO/DATA7 (32) (io), G24 IO (40) (io), G25 IO (44) (io), G26 IO (46) (io), H22 IO/nWS (38) (io), H23 IO (42) (io), H24 IO/nRS (50) (io), H25 IO (52) (io), H26 IO (54) (io), J22 IO (48) (io), J24 IO/nCS (56) (io), J25 IO (60) (io), J26 IO (64) (io), K22 IO (58) (io), K23 IO (62) (io), K25 IO/CS (69) (io), K26 IO (70) (io), L23 IO/DEV_CLRn (71) (io), L24 IO/CLKLK_FB2n (74) (io), L26 IO/CLK4n (76) (io), M22 VCCIO8 (power), M23 CLK4p (77) (in), M24 IO/CLK2n (78) (io), N26 CLK2p (82) (in), P3 CLK1p (329) (in), P5 VCCIO4 (power), R3 IO/CLK1n (325) (io), R4 CLK3p (324) (in), R5 IO (319) (io), T1 IO/CLK3n (323) (io), T2 IO (318) (io), T3 IO (316) (io), T4 IO (311) (io), T5 IO (307) (io), U1 IO (313) (io), U2 IO (309) (io), U3 IO (305) (io), U5 IO (299) (io), V1 IO (303) (io), V2 IO (301) (io), V3 IO (297) (io), V4 IO (291) (io), V5 IO (287) (io), W1 IO (295) (io), W2 IO (293) (io), W3 IO (289) (io), W4 IO (281) (io), W5 IO (277) (io), Y1 IO (285) (io), Y2 IO (283) (io), Y3 IO (279) (io), Y4 IO (271) (io), Y5 IO (265) (io)
part C pins: A12 nCEO (446) (out), AE12 TCK (213) (in), AE15 CONF_DONE (201) (io), AF11 TMS (214) (in), AF15 nSTATUS (202) (io), B12 TRST (445) (in), B15 TDO (455) (out), L25 CLKLK_FB2p (75) (in), M26 DATA0 (80) (in), N25 DCLK (81) (in), P1 MSEL0 (331) (in), P2 MSEL1 (330) (in), P4 CLKLK_ENA (328) (in), P25 TDI (84) (in), P26 nCE (83) (in), R1 nCONFIG (327) (in), R23 CLKLK_OUT2p (93) (out)
part D pins: A14 VCCINT (power), AB3 VCCINT (power), AB4 GND (power), AB5 GND (power), AB25 VCCINT (power), AC3 GND (power), AC22 GND (power), AC23 GND (power), AC24 GND (power), AD2 GND (power), AD13 GND (power), AD25 GND (power), AE1 GND (power), AE13 GND (power), AE26 GND (power), AF13 VCCINT (power), AF14 VCCINT (power), B1 GND (power), B13 GND (power), B14 VCCINT (power), B26 GND (power), C2 GND (power), C13 GND (power), C25 GND (power), D3 GND (power), D4 GND (power), D22 GND (power), D23 GND (power), D24 GND (power), E1 VCCINT (power), E5 GND (power), E23 VCCINT (power), H1 VCCINT (power), J23 VCCINT (power), K24 VCC_CKLK4 (66) (power), L1 VCCINT (power), L22 GND_CKLK4 (67/68) (power), M25 VCCINT (power), N3 GND (power), N4 GND (power), N5 GND (power), N22 GND (power), N23 GND (power), N24 GND (power), P23 VCC_CKLK2 (89) (power), P24 GND_CKLK2 (86/87) (power), R2 VCCINT (power), R24 GND_CKOUT2 (92) (power), R25 VCC_CKOUT2 (91) (power), T22 VCCINT (power), U4 VCCINT (power), Y26 VCCINT (power)

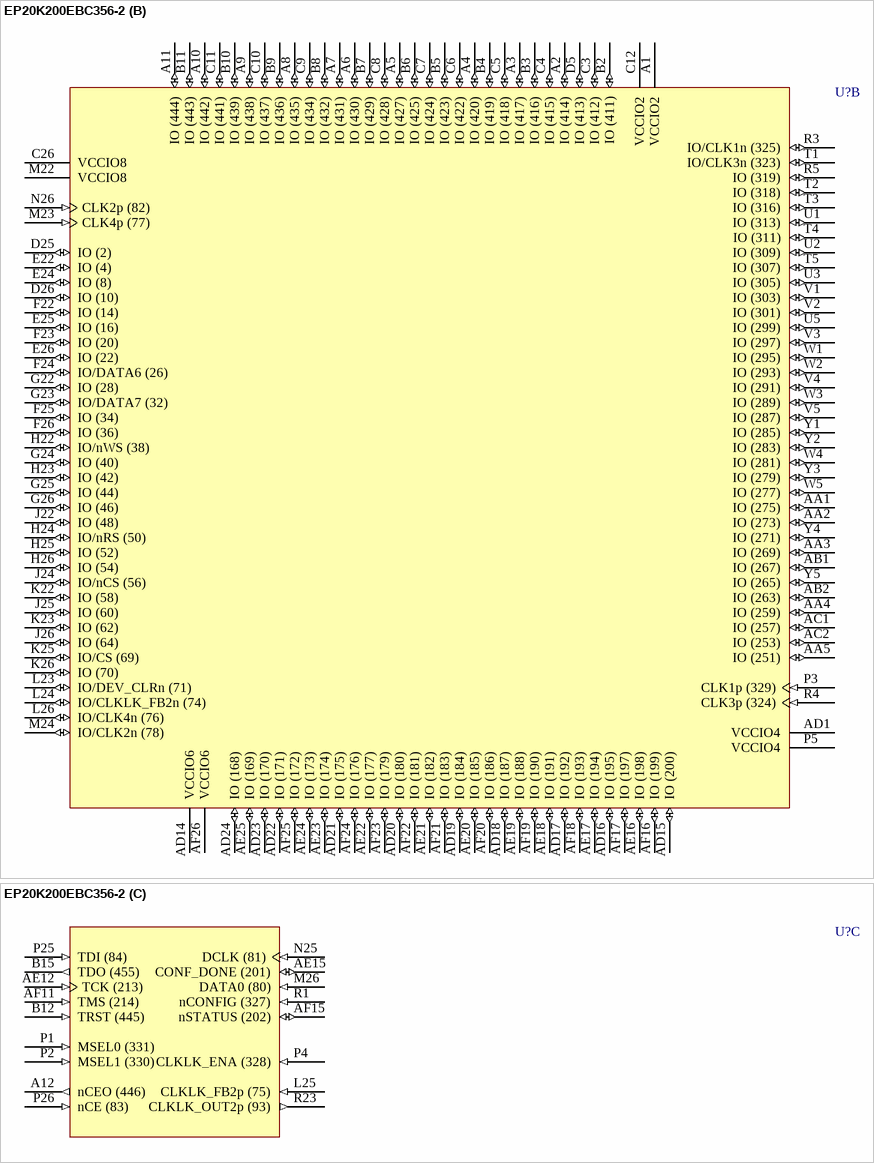
[diagram p167: symbol EP20K200EBC356-2]

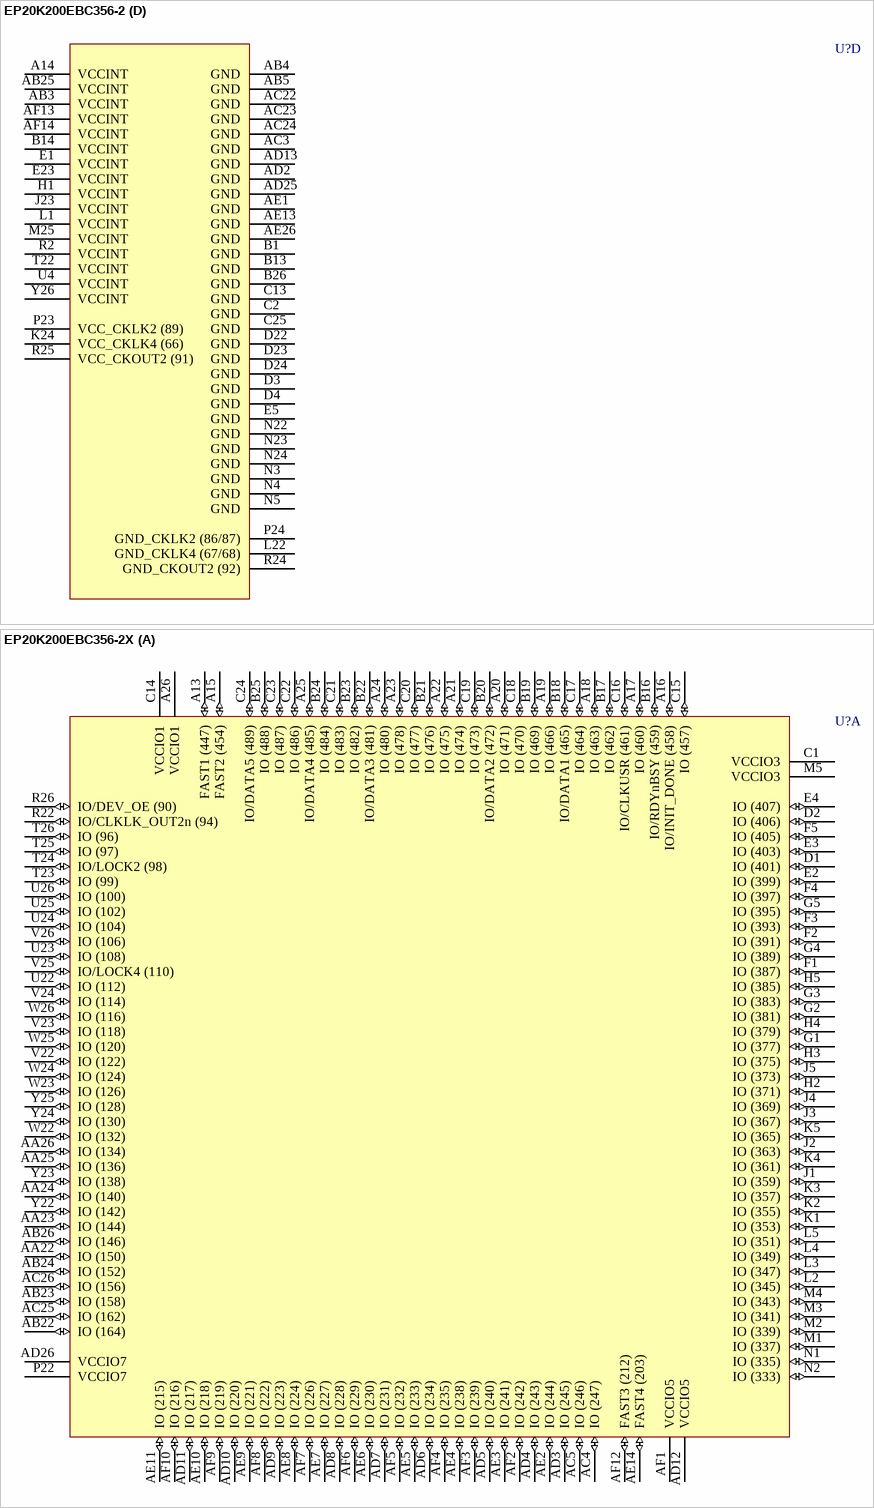
[diagram p168: symbols EP20K200EBC356-2 to EP20K200EBC356-2X]

## EP20K200EBC356-2
designator U?
APEX 20K200E PLD, 356-Pin BGA, Commercial Grade, Speed Grade 2; Published: 17-Jul-2002; LatestRevisionDate: 13-Apr-2006; LatestRevisionNote: IPC-7351 Footprint Added.; DatasheetVersion: Mar-2004; PackageVersion: ver14.1, Oct-2005; PackageReference: BGA356; Publisher: Altium Limited; PackageDescription: 356-Ball Ball Grid Array (BGA356); Code_JEDEC: MO-192-BAR-2; ComponentLink1Description: Manufacturer Link; ComponentLink1URL: http://www.altera.com/products/devices/apex/apx-index.html; ComponentLink2Description: Datasheet; ComponentLink2URL: http://www.altera.com/literature/ds/apex.pdf
footprint BGA356 (BGA, 356-Leads, Body 35x35mm, Pitch 1.27mm)
3D model EP20K200E-BGA356 (356-Ball Ball Grid Array (BGA356))
part A pins: A13 FAST1 (447) (io), A15 FAST2 (454) (io), A16 IO/INIT_DONE (458) (io), A17 IO (460) (io), A18 IO (463) (io), A19 IO (466) (io), A20 IO (471) (io), A21 IO (474) (io), A22 IO (475) (io), A23 IO (478) (io), A24 IO (480) (io), A25 IO/DATA4 (485) (io), A26 VCCIO1 (power), AA22 IO (150) (io), AA23 IO (144) (io), AA24 IO (140) (io), AA25 IO (136) (io), AA26 IO (134) (io), AB22 IO (164) (io), AB23 IO (158) (io), AB24 IO (152) (io), AB26 IO (146) (io), AC4 IO (247) (io), AC5 IO (246) (io), AC25 IO (162) (io), AC26 IO (156) (io), AD3 IO (245) (io), AD4 IO (243) (io), AD5 IO (240) (io), AD6 IO (234) (io), AD7 IO (231) (io), AD8 IO (228) (io), AD9 IO (223) (io), AD10 IO (220) (io), AD11 IO (217) (io), AD12 VCCIO5 (power), AD26 VCCIO7 (power), AE2 IO (244) (io), AE3 IO (241) (io), AE4 IO (238) (io), AE5 IO (233) (io), AE6 IO (230) (io), AE7 IO (227) (io), AE8 IO (224) (io), AE9 IO (221) (io), AE10 IO (218) (io), AE11 IO (215) (io), AE14 FAST4 (203) (io), AF1 VCCIO5 (power), AF2 IO (242) (io), AF3 IO (239) (io), AF4 IO (235) (io), AF5 IO (232) (io), AF6 IO (229) (io), AF7 IO (226) (io), AF8 IO (222) (io), AF9 IO (219) (io), AF10 IO (216) (io), AF12 FAST3 (212) (io), B16 IO/RDYnBSY (459) (io), B17 IO (462) (io), B18 IO/DATA1 (465) (io), B19 IO (469) (io), B20 IO/DATA2 (472) (io), B21 IO (476) (io), B22 IO/DATA3 (481) (io), B23 IO (482) (io), B24 IO (484) (io), B25 IO (488) (io), C1 VCCIO3 (power), C14 VCCIO1 (power), C15 IO (457) (io), C16 IO/CLKUSR (461) (io), C17 IO (464) (io), C18 IO (470) (io), C19 IO (473) (io), C20 IO (477) (io), C21 IO (483) (io), C22 IO (486) (io), C23 IO (487) (io), C24 IO/DATA5 (489) (io), D1 IO (401) (io), D2 IO (406) (io), E2 IO (399) (io), E3 IO (403) (io), E4 IO (407) (io), F1 IO (387) (io), F2 IO (391) (io), F3 IO (393) (io), F4 IO (397) (io), F5 IO (405) (io), G1 IO (377) (io), G2 IO (381) (io), G3 IO (383) (io), G4 IO (389) (io), G5 IO (395) (io), H2 IO (371) (io), H3 IO (375) (io), H4 IO (379) (io), H5 IO (385) (io), J1 IO (359) (io), J2 IO (363) (io), J3 IO (367) (io), J4 IO (369) (io), J5 IO (373) (io), K1 IO (353) (io), K2 IO (355) (io), K3 IO (357) (io), K4 IO (361) (io), K5 IO (365) (io), L2 IO (345) (io), L3 IO (347) (io), L4 IO (349) (io), L5 IO (351) (io), M1 IO (337) (io), M2 IO (339) (io), M3 IO (341) (io), M4 IO (343) (io), M5 VCCIO3 (power), N1 IO (335) (io), N2 IO (333) (io), P22 VCCIO7 (power), R22 IO/CLKLK_OUT2n (94) (io), R26 IO/DEV_OE (90) (io), T23 IO (99) (io), T24 IO/LOCK2 (98) (io), T25 IO (97) (io), T26 IO (96) (io), U22 IO (112) (io), U23 IO (108) (io), U24 IO (104) (io), U25 IO (102) (io), U26 IO (100) (io), V22 IO (122) (io), V23 IO (118) (io), V24 IO (114) (io), V25 IO/LOCK4 (110) (io), V26 IO (106) (io), W22 IO (132) (io), W23 IO (126) (io), W24 IO (124) (io), W25 IO (120) (io), W26 IO (116) (io), Y22 IO (142) (io), Y23 IO (138) (io), Y24 IO (130) (io), Y25 IO (128) (io)
part B pins: A1 VCCIO2 (power), A2 IO (414) (io), A3 IO (417) (io), A4 IO (420) (io), A5 IO (427) (io), A6 IO (430) (io), A7 IO (431) (io), A8 IO (435) (io), A9 IO (438) (io), A10 IO (442) (io), A11 IO (444) (io), AA1 IO (275) (io), AA2 IO (273) (io), AA3 IO (269) (io), AA4 IO (259) (io), AA5 IO (251) (io), AB1 IO (267) (io), AB2 IO (263) (io), AC1 IO (257) (io), AC2 IO (253) (io), AD1 VCCIO4 (power), AD14 VCCIO6 (power), AD15 IO (200) (io), AD16 IO (195) (io), AD17 IO (192) (io), AD18 IO (187) (io), AD19 IO (184) (io), AD20 IO (180) (io), AD21 IO (175) (io), AD22 IO (171) (io), AD23 IO (170) (io), AD24 IO (168) (io), AE16 IO (198) (io), AE17 IO (194) (io), AE18 IO (191) (io), AE19 IO (188) (io), AE20 IO (185) (io), AE21 IO (182) (io), AE22 IO (177) (io), AE23 IO (174) (io), AE24 IO (173) (io), AE25 IO (169) (io), AF16 IO (199) (io), AF17 IO (197) (io), AF18 IO (193) (io), AF19 IO (190) (io), AF20 IO (186) (io), AF21 IO (183) (io), AF22 IO (181) (io), AF23 IO (179) (io), AF24 IO (176) (io), AF25 IO (172) (io), AF26 VCCIO6 (power), B2 IO (411) (io), B3 IO (416) (io), B4 IO (419) (io), B5 IO (423) (io), B6 IO (425) (io), B7 IO (429) (io), B8 IO (432) (io), B9 IO (436) (io), B10 IO (439) (io), B11 IO (443) (io), C3 IO (412) (io), C4 IO (415) (io), C5 IO (418) (io), C6 IO (422) (io), C7 IO (424) (io), C8 IO (428) (io), C9 IO (434) (io), C10 IO (437) (io), C11 IO (441) (io), C12 VCCIO2 (power), C26 VCCIO8 (power), D5 IO (413) (io), D25 IO (2) (io), D26 IO (10) (io), E22 IO (4) (io), E24 IO (8) (io), E25 IO (16) (io), E26 IO (22) (io), F22 IO (14) (io), F23 IO (20) (io), F24 IO/DATA6 (26) (io), F25 IO (34) (io), F26 IO (36) (io), G22 IO (28) (io), G23 IO/DATA7 (32) (io), G24 IO (40) (io), G25 IO (44) (io), G26 IO (46) (io), H22 IO/nWS (38) (io), H23 IO (42) (io), H24 IO/nRS (50) (io), H25 IO (52) (io), H26 IO (54) (io), J22 IO (48) (io), J24 IO/nCS (56) (io), J25 IO (60) (io), J26 IO (64) (io), K22 IO (58) (io), K23 IO (62) (io), K25 IO/CS (69) (io), K26 IO (70) (io), L23 IO/DEV_CLRn (71) (io), L24 IO/CLKLK_FB2n (74) (io), L26 IO/CLK4n (76) (io), M22 VCCIO8 (power), M23 CLK4p (77) (in), M24 IO/CLK2n (78) (io), N26 CLK2p (82) (in), P3 CLK1p (329) (in), P5 VCCIO4 (power), R3 IO/CLK1n (325) (io), R4 CLK3p (324) (in), R5 IO (319) (io), T1 IO/CLK3n (323) (io), T2 IO (318) (io), T3 IO (316) (io), T4 IO (311) (io), T5 IO (307) (io), U1 IO (313) (io), U2 IO (309) (io), U3 IO (305) (io), U5 IO (299) (io), V1 IO (303) (io), V2 IO (301) (io), V3 IO (297) (io), V4 IO (291) (io), V5 IO (287) (io), W1 IO (295) (io), W2 IO (293) (io), W3 IO (289) (io), W4 IO (281) (io), W5 IO (277) (io), Y1 IO (285) (io), Y2 IO (283) (io), Y3 IO (279) (io), Y4 IO (271) (io), Y5 IO (265) (io)
part C pins: A12 nCEO (446) (out), AE12 TCK (213) (in), AE15 CONF_DONE (201) (io), AF11 TMS (214) (in), AF15 nSTATUS (202) (io), B12 TRST (445) (in), B15 TDO (455) (out), L25 CLKLK_FB2p (75) (in), M26 DATA0 (80) (in), N25 DCLK (81) (in), P1 MSEL0 (331) (in), P2 MSEL1 (330) (in), P4 CLKLK_ENA (328) (in), P25 TDI (84) (in), P26 nCE (83) (in), R1 nCONFIG (327) (in), R23 CLKLK_OUT2p (93) (out)
part D pins: A14 VCCINT (power), AB3 VCCINT (power), AB4 GND (power), AB5 GND (power), AB25 VCCINT (power), AC3 GND (power), AC22 GND (power), AC23 GND (power), AC24 GND (power), AD2 GND (power), AD13 GND (power), AD25 GND (power), AE1 GND (power), AE13 GND (power), AE26 GND (power), AF13 VCCINT (power), AF14 VCCINT (power), B1 GND (power), B13 GND (power), B14 VCCINT (power), B26 GND (power), C2 GND (power), C13 GND (power), C25 GND (power), D3 GND (power), D4 GND (power), D22 GND (power), D23 GND (power), D24 GND (power), E1 VCCINT (power), E5 GND (power), E23 VCCINT (power), H1 VCCINT (power), J23 VCCINT (power), K24 VCC_CKLK4 (66) (power), L1 VCCINT (power), L22 GND_CKLK4 (67/68) (power), M25 VCCINT (power), N3 GND (power), N4 GND (power), N5 GND (power), N22 GND (power), N23 GND (power), N24 GND (power), P23 VCC_CKLK2 (89) (power), P24 GND_CKLK2 (86/87) (power), R2 VCCINT (power), R24 GND_CKOUT2 (92) (power), R25 VCC_CKOUT2 (91) (power), T22 VCCINT (power), U4 VCCINT (power), Y26 VCCINT (power)

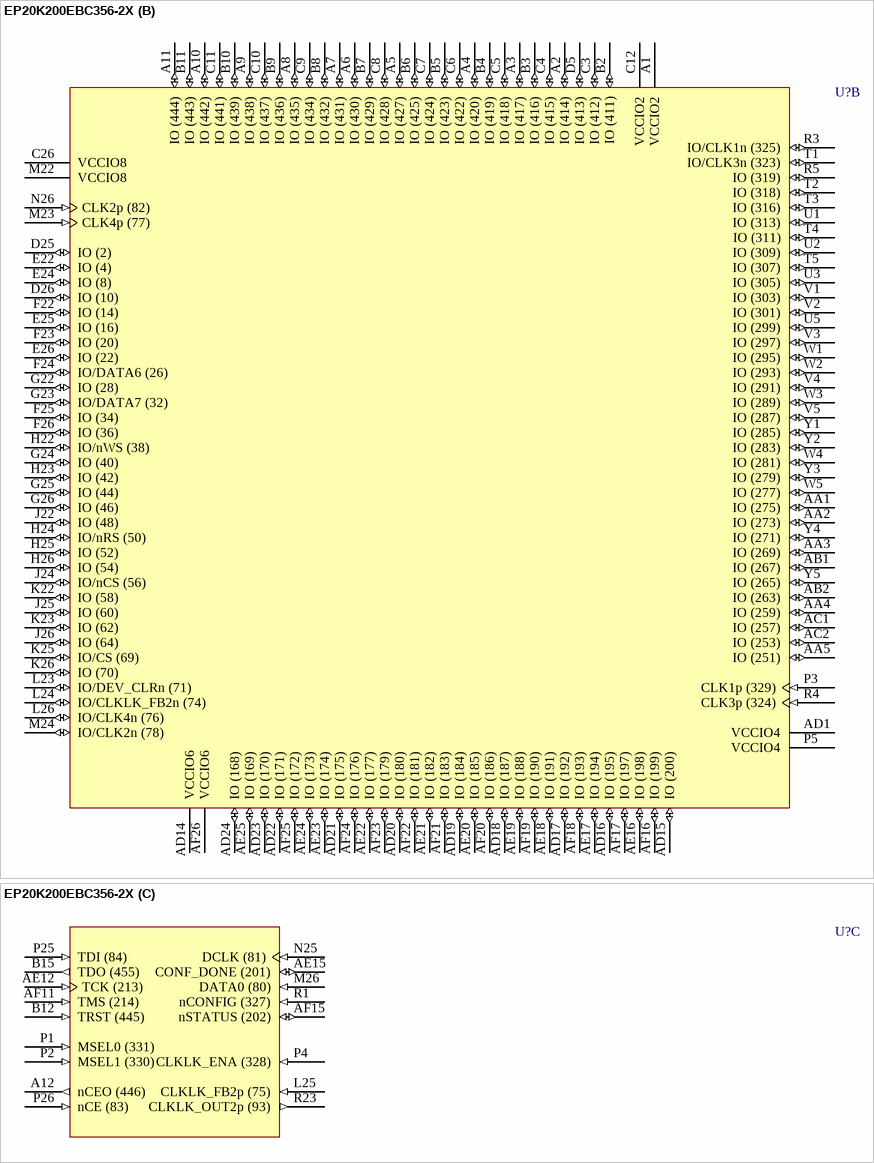
[diagram p169: symbol EP20K200EBC356-2X]

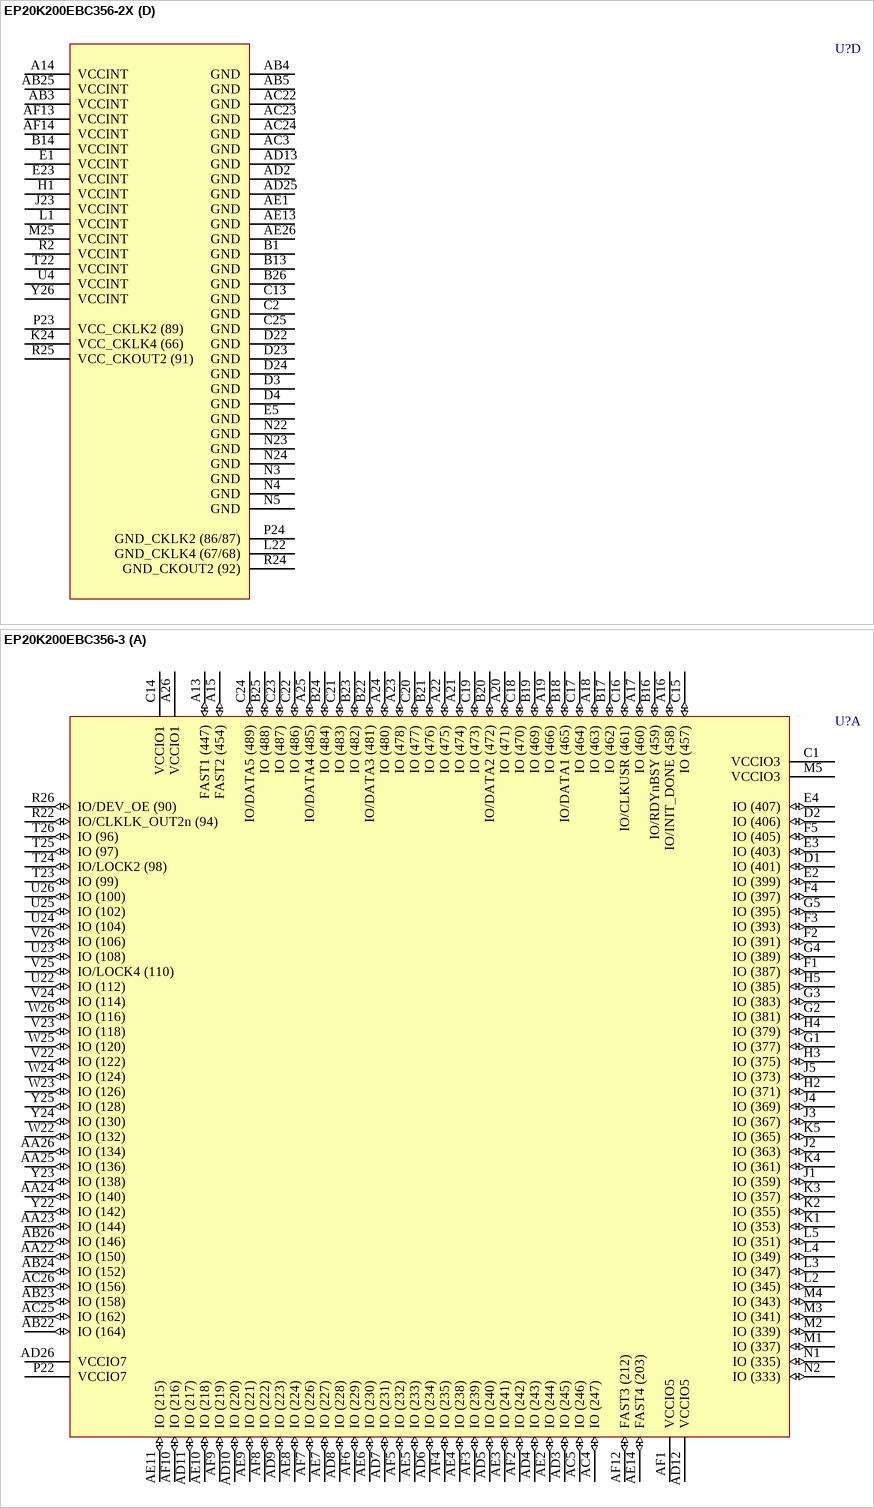
[diagram p170: symbols EP20K200EBC356-2X to EP20K200EBC356-3]

## EP20K200EBC356-2X
designator U?
APEX 20K200E PLD with PLLs and LVDS, 356-Pin BGA, Commercial Grade, Speed Grade 2; Published: 17-Jul-2002; LatestRevisionDate: 13-Apr-2006; LatestRevisionNote: IPC-7351 Footprint Added.; DatasheetVersion: Mar-2004; PackageVersion: ver14.1, Oct-2005; PackageReference: BGA356; Publisher: Altium Limited; PackageDescription: 356-Ball Ball Grid Array (BGA356); Code_JEDEC: MO-192-BAR-2; ComponentLink1Description: Manufacturer Link; ComponentLink1URL: http://www.altera.com/products/devices/apex/apx-index.html; ComponentLink2Description: Datasheet; ComponentLink2URL: http://www.altera.com/literature/ds/apex.pdf
footprint BGA356 (BGA, 356-Leads, Body 35x35mm, Pitch 1.27mm)
3D model EP20K200E-BGA356 (356-Ball Ball Grid Array (BGA356))
part A pins: A13 FAST1 (447) (io), A15 FAST2 (454) (io), A16 IO/INIT_DONE (458) (io), A17 IO (460) (io), A18 IO (463) (io), A19 IO (466) (io), A20 IO (471) (io), A21 IO (474) (io), A22 IO (475) (io), A23 IO (478) (io), A24 IO (480) (io), A25 IO/DATA4 (485) (io), A26 VCCIO1 (power), AA22 IO (150) (io), AA23 IO (144) (io), AA24 IO (140) (io), AA25 IO (136) (io), AA26 IO (134) (io), AB22 IO (164) (io), AB23 IO (158) (io), AB24 IO (152) (io), AB26 IO (146) (io), AC4 IO (247) (io), AC5 IO (246) (io), AC25 IO (162) (io), AC26 IO (156) (io), AD3 IO (245) (io), AD4 IO (243) (io), AD5 IO (240) (io), AD6 IO (234) (io), AD7 IO (231) (io), AD8 IO (228) (io), AD9 IO (223) (io), AD10 IO (220) (io), AD11 IO (217) (io), AD12 VCCIO5 (power), AD26 VCCIO7 (power), AE2 IO (244) (io), AE3 IO (241) (io), AE4 IO (238) (io), AE5 IO (233) (io), AE6 IO (230) (io), AE7 IO (227) (io), AE8 IO (224) (io), AE9 IO (221) (io), AE10 IO (218) (io), AE11 IO (215) (io), AE14 FAST4 (203) (io), AF1 VCCIO5 (power), AF2 IO (242) (io), AF3 IO (239) (io), AF4 IO (235) (io), AF5 IO (232) (io), AF6 IO (229) (io), AF7 IO (226) (io), AF8 IO (222) (io), AF9 IO (219) (io), AF10 IO (216) (io), AF12 FAST3 (212) (io), B16 IO/RDYnBSY (459) (io), B17 IO (462) (io), B18 IO/DATA1 (465) (io), B19 IO (469) (io), B20 IO/DATA2 (472) (io), B21 IO (476) (io), B22 IO/DATA3 (481) (io), B23 IO (482) (io), B24 IO (484) (io), B25 IO (488) (io), C1 VCCIO3 (power), C14 VCCIO1 (power), C15 IO (457) (io), C16 IO/CLKUSR (461) (io), C17 IO (464) (io), C18 IO (470) (io), C19 IO (473) (io), C20 IO (477) (io), C21 IO (483) (io), C22 IO (486) (io), C23 IO (487) (io), C24 IO/DATA5 (489) (io), D1 IO (401) (io), D2 IO (406) (io), E2 IO (399) (io), E3 IO (403) (io), E4 IO (407) (io), F1 IO (387) (io), F2 IO (391) (io), F3 IO (393) (io), F4 IO (397) (io), F5 IO (405) (io), G1 IO (377) (io), G2 IO (381) (io), G3 IO (383) (io), G4 IO (389) (io), G5 IO (395) (io), H2 IO (371) (io), H3 IO (375) (io), H4 IO (379) (io), H5 IO (385) (io), J1 IO (359) (io), J2 IO (363) (io), J3 IO (367) (io), J4 IO (369) (io), J5 IO (373) (io), K1 IO (353) (io), K2 IO (355) (io), K3 IO (357) (io), K4 IO (361) (io), K5 IO (365) (io), L2 IO (345) (io), L3 IO (347) (io), L4 IO (349) (io), L5 IO (351) (io), M1 IO (337) (io), M2 IO (339) (io), M3 IO (341) (io), M4 IO (343) (io), M5 VCCIO3 (power), N1 IO (335) (io), N2 IO (333) (io), P22 VCCIO7 (power), R22 IO/CLKLK_OUT2n (94) (io), R26 IO/DEV_OE (90) (io), T23 IO (99) (io), T24 IO/LOCK2 (98) (io), T25 IO (97) (io), T26 IO (96) (io), U22 IO (112) (io), U23 IO (108) (io), U24 IO (104) (io), U25 IO (102) (io), U26 IO (100) (io), V22 IO (122) (io), V23 IO (118) (io), V24 IO (114) (io), V25 IO/LOCK4 (110) (io), V26 IO (106) (io), W22 IO (132) (io), W23 IO (126) (io), W24 IO (124) (io), W25 IO (120) (io), W26 IO (116) (io), Y22 IO (142) (io), Y23 IO (138) (io), Y24 IO (130) (io), Y25 IO (128) (io)
part B pins: A1 VCCIO2 (power), A2 IO (414) (io), A3 IO (417) (io), A4 IO (420) (io), A5 IO (427) (io), A6 IO (430) (io), A7 IO (431) (io), A8 IO (435) (io), A9 IO (438) (io), A10 IO (442) (io), A11 IO (444) (io), AA1 IO (275) (io), AA2 IO (273) (io), AA3 IO (269) (io), AA4 IO (259) (io), AA5 IO (251) (io), AB1 IO (267) (io), AB2 IO (263) (io), AC1 IO (257) (io), AC2 IO (253) (io), AD1 VCCIO4 (power), AD14 VCCIO6 (power), AD15 IO (200) (io), AD16 IO (195) (io), AD17 IO (192) (io), AD18 IO (187) (io), AD19 IO (184) (io), AD20 IO (180) (io), AD21 IO (175) (io), AD22 IO (171) (io), AD23 IO (170) (io), AD24 IO (168) (io), AE16 IO (198) (io), AE17 IO (194) (io), AE18 IO (191) (io), AE19 IO (188) (io), AE20 IO (185) (io), AE21 IO (182) (io), AE22 IO (177) (io), AE23 IO (174) (io), AE24 IO (173) (io), AE25 IO (169) (io), AF16 IO (199) (io), AF17 IO (197) (io), AF18 IO (193) (io), AF19 IO (190) (io), AF20 IO (186) (io), AF21 IO (183) (io), AF22 IO (181) (io), AF23 IO (179) (io), AF24 IO (176) (io), AF25 IO (172) (io), AF26 VCCIO6 (power), B2 IO (411) (io), B3 IO (416) (io), B4 IO (419) (io), B5 IO (423) (io), B6 IO (425) (io), B7 IO (429) (io), B8 IO (432) (io), B9 IO (436) (io), B10 IO (439) (io), B11 IO (443) (io), C3 IO (412) (io), C4 IO (415) (io), C5 IO (418) (io), C6 IO (422) (io), C7 IO (424) (io), C8 IO (428) (io), C9 IO (434) (io), C10 IO (437) (io), C11 IO (441) (io), C12 VCCIO2 (power), C26 VCCIO8 (power), D5 IO (413) (io), D25 IO (2) (io), D26 IO (10) (io), E22 IO (4) (io), E24 IO (8) (io), E25 IO (16) (io), E26 IO (22) (io), F22 IO (14) (io), F23 IO (20) (io), F24 IO/DATA6 (26) (io), F25 IO (34) (io), F26 IO (36) (io), G22 IO (28) (io), G23 IO/DATA7 (32) (io), G24 IO (40) (io), G25 IO (44) (io), G26 IO (46) (io), H22 IO/nWS (38) (io), H23 IO (42) (io), H24 IO/nRS (50) (io), H25 IO (52) (io), H26 IO (54) (io), J22 IO (48) (io), J24 IO/nCS (56) (io), J25 IO (60) (io), J26 IO (64) (io), K22 IO (58) (io), K23 IO (62) (io), K25 IO/CS (69) (io), K26 IO (70) (io), L23 IO/DEV_CLRn (71) (io), L24 IO/CLKLK_FB2n (74) (io), L26 IO/CLK4n (76) (io), M22 VCCIO8 (power), M23 CLK4p (77) (in), M24 IO/CLK2n (78) (io), N26 CLK2p (82) (in), P3 CLK1p (329) (in), P5 VCCIO4 (power), R3 IO/CLK1n (325) (io), R4 CLK3p (324) (in), R5 IO (319) (io), T1 IO/CLK3n (323) (io), T2 IO (318) (io), T3 IO (316) (io), T4 IO (311) (io), T5 IO (307) (io), U1 IO (313) (io), U2 IO (309) (io), U3 IO (305) (io), U5 IO (299) (io), V1 IO (303) (io), V2 IO (301) (io), V3 IO (297) (io), V4 IO (291) (io), V5 IO (287) (io), W1 IO (295) (io), W2 IO (293) (io), W3 IO (289) (io), W4 IO (281) (io), W5 IO (277) (io), Y1 IO (285) (io), Y2 IO (283) (io), Y3 IO (279) (io), Y4 IO (271) (io), Y5 IO (265) (io)
part C pins: A12 nCEO (446) (out), AE12 TCK (213) (in), AE15 CONF_DONE (201) (io), AF11 TMS (214) (in), AF15 nSTATUS (202) (io), B12 TRST (445) (in), B15 TDO (455) (out), L25 CLKLK_FB2p (75) (in), M26 DATA0 (80) (in), N25 DCLK (81) (in), P1 MSEL0 (331) (in), P2 MSEL1 (330) (in), P4 CLKLK_ENA (328) (in), P25 TDI (84) (in), P26 nCE (83) (in), R1 nCONFIG (327) (in), R23 CLKLK_OUT2p (93) (out)
part D pins: A14 VCCINT (power), AB3 VCCINT (power), AB4 GND (power), AB5 GND (power), AB25 VCCINT (power), AC3 GND (power), AC22 GND (power), AC23 GND (power), AC24 GND (power), AD2 GND (power), AD13 GND (power), AD25 GND (power), AE1 GND (power), AE13 GND (power), AE26 GND (power), AF13 VCCINT (power), AF14 VCCINT (power), B1 GND (power), B13 GND (power), B14 VCCINT (power), B26 GND (power), C2 GND (power), C13 GND (power), C25 GND (power), D3 GND (power), D4 GND (power), D22 GND (power), D23 GND (power), D24 GND (power), E1 VCCINT (power), E5 GND (power), E23 VCCINT (power), H1 VCCINT (power), J23 VCCINT (power), K24 VCC_CKLK4 (66) (power), L1 VCCINT (power), L22 GND_CKLK4 (67/68) (power), M25 VCCINT (power), N3 GND (power), N4 GND (power), N5 GND (power), N22 GND (power), N23 GND (power), N24 GND (power), P23 VCC_CKLK2 (89) (power), P24 GND_CKLK2 (86/87) (power), R2 VCCINT (power), R24 GND_CKOUT2 (92) (power), R25 VCC_CKOUT2 (91) (power), T22 VCCINT (power), U4 VCCINT (power), Y26 VCCINT (power)

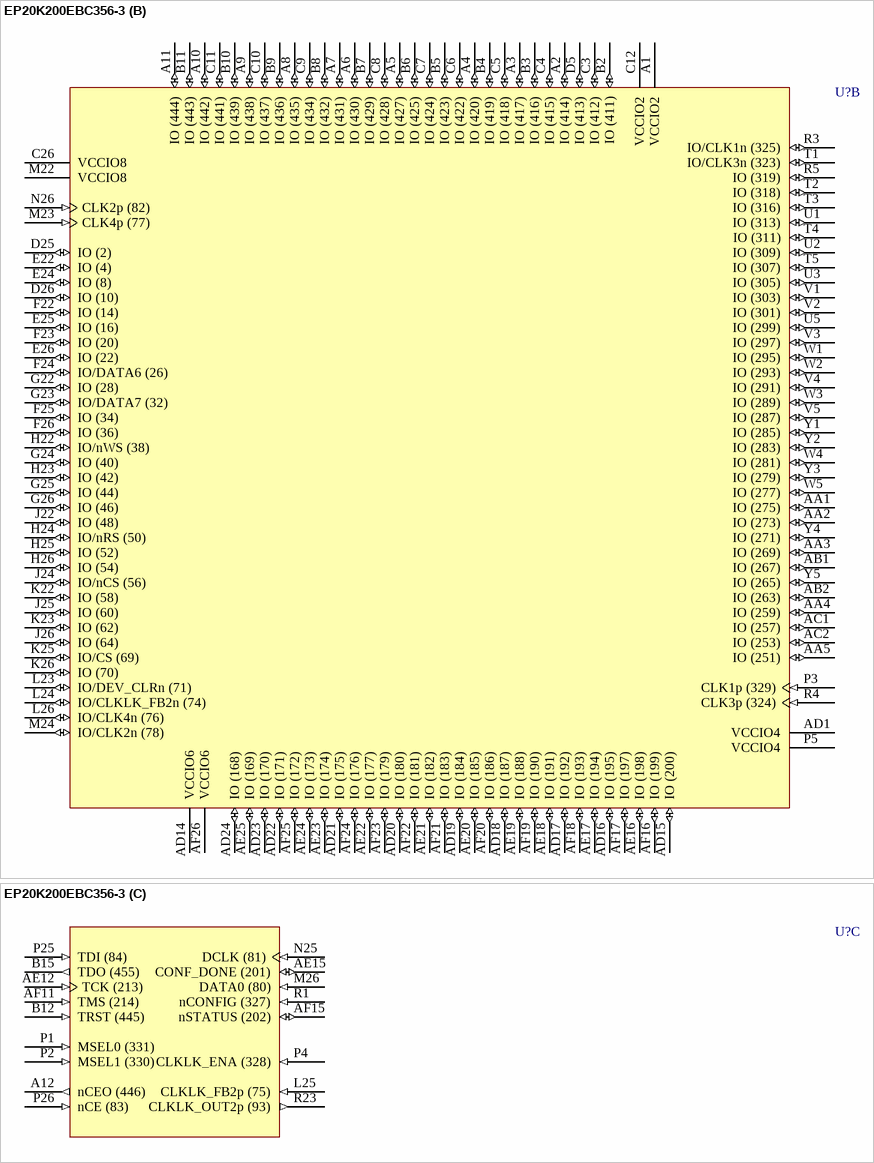
[diagram p171: symbol EP20K200EBC356-3]

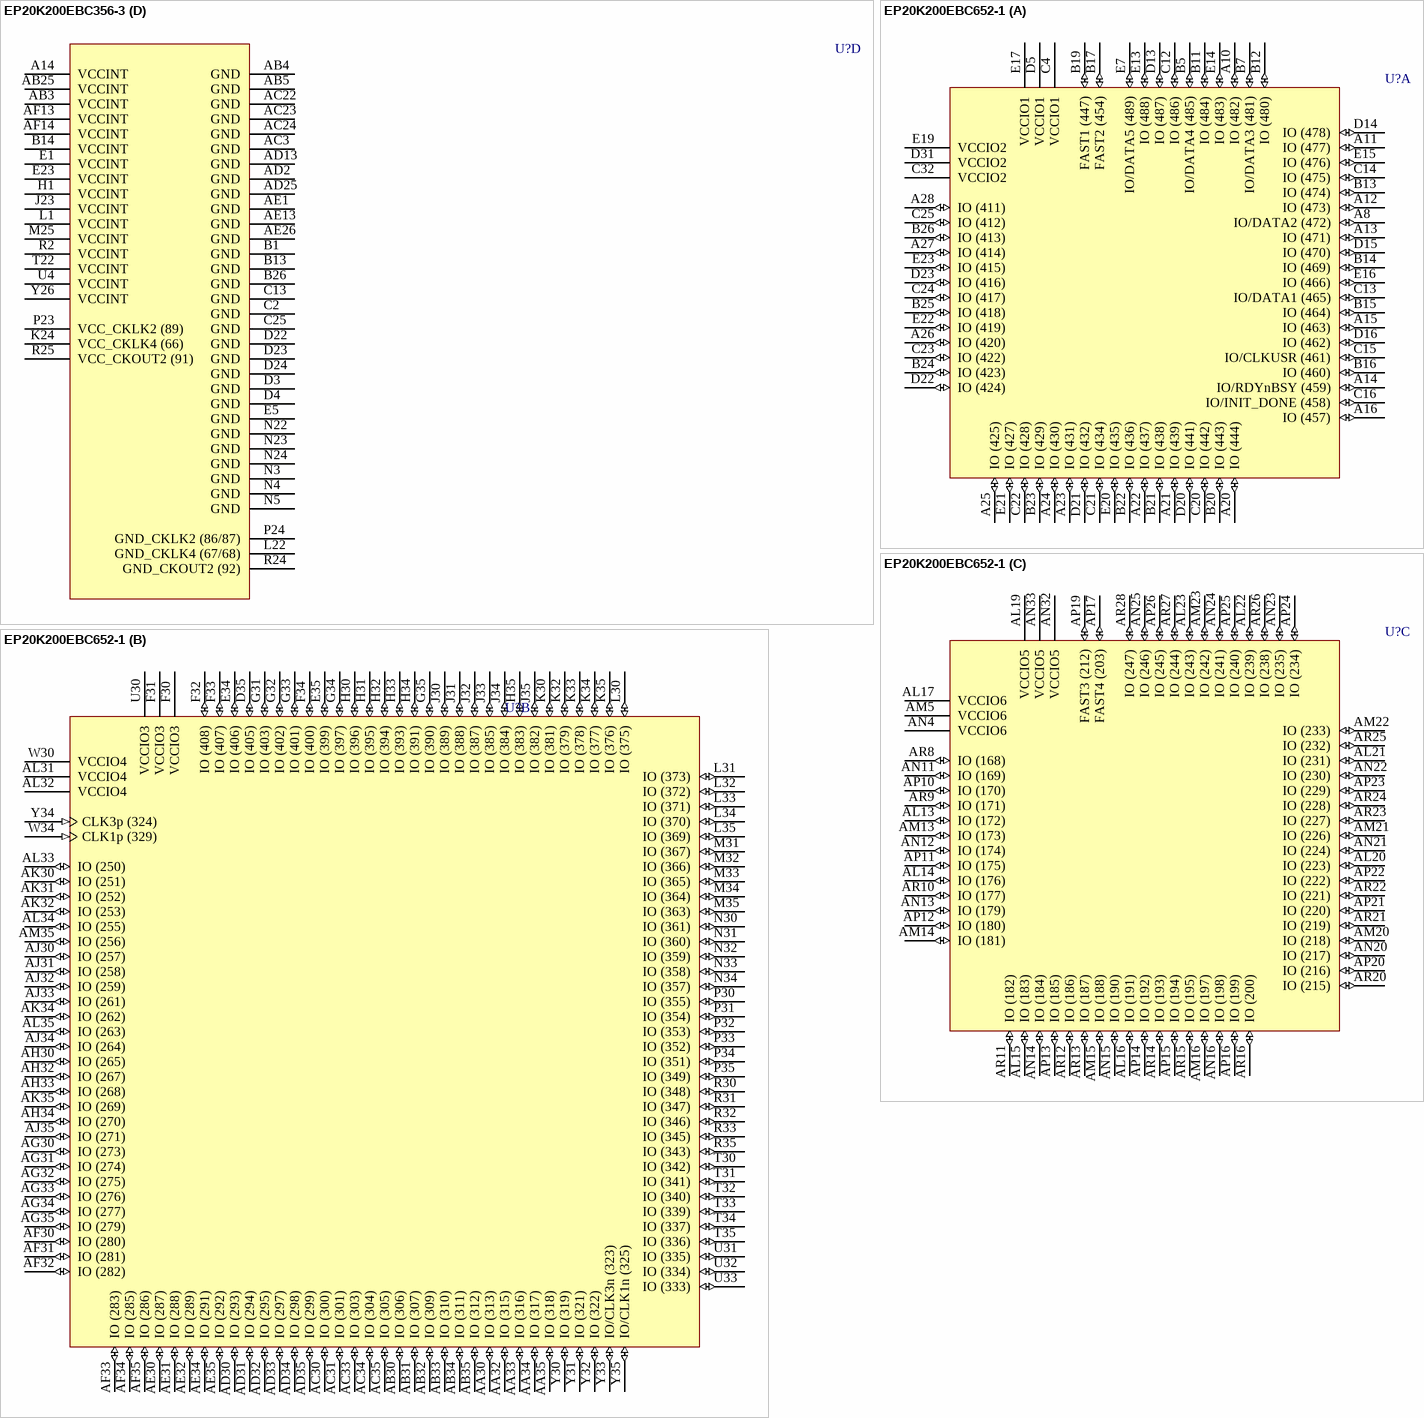
[diagram p172: symbols EP20K200EBC356-3 to EP20K200EBC652-1]